# Altium footprint library PcbLib1.PcbLib: 6 footprints (part 2 of 3)
Each footprint in its own frame and in the unit in brackets; x right, y up, seen from the top. Pads: shape width x height; smd on the part's side, far side on the other; paste and mask are expansions set on the pad; w line width, h text height; cw(c..) or ccw(c..) is an arc to the next point about the centre after c.
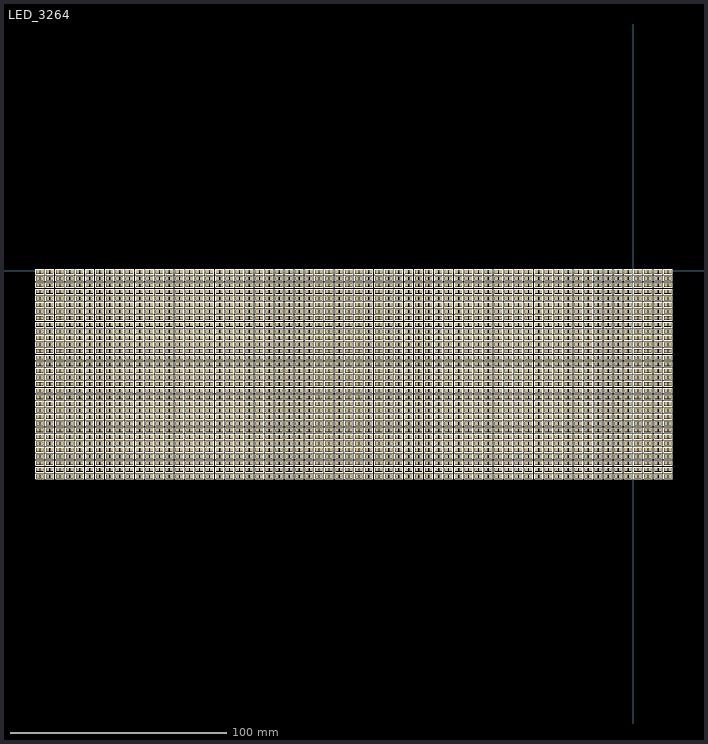
[diagram p1: the footprint, top view; thin cyan lines are the x and y axes]

## LED_3264 [mm]
pads (4096):
  rect 1.3x1.5 smd: 1(-275.082,-94.869) 1(-275.082,-91.821) 1(-275.082,-88.773) 1(-275.082,-85.725) 1(-275.082,-82.677) 1(-275.082,-79.629) 1(-275.082,-76.581) 1(-275.082,-73.533) 1(-275.082,-70.485) 1(-275.082,-67.437) 1(-275.082,-64.389) 1(-275.082,-61.341) 1(-275.082,-58.293) 1(-275.082,-55.245) 1(-275.082,-52.197) 1(-275.082,-49.149) 2(-270.51,-94.869) 2(-270.51,-91.821) 2(-270.51,-88.773) 2(-270.51,-85.725) 2(-270.51,-82.677) 2(-270.51,-79.629) 2(-270.51,-76.581) 2(-270.51,-73.533) 2(-270.51,-70.485) 2(-270.51,-67.437) 2(-270.51,-64.389) 2(-270.51,-61.341) 2(-270.51,-58.293) 2(-270.51,-55.245) 2(-270.51,-52.197) 2(-270.51,-49.149) 3(-265.811,-94.869) 3(-265.811,-91.821) 3(-265.811,-88.773) 3(-265.811,-85.725) 3(-265.811,-82.677) 3(-265.811,-79.629) 3(-265.811,-76.581) 3(-265.811,-73.533) 3(-265.811,-70.485) 3(-265.811,-67.437) 3(-265.811,-64.389) 3(-265.811,-61.341) 3(-265.811,-58.293) 3(-265.811,-55.245) 3(-265.811,-52.197) 3(-265.811,-49.149) 4(-261.239,-94.869) 4(-261.239,-91.821) 4(-261.239,-88.773) 4(-261.239,-85.725) 4(-261.239,-82.677) 4(-261.239,-79.629) 4(-261.239,-76.581) 4(-261.239,-73.533) 4(-261.239,-70.485) 4(-261.239,-67.437) 4(-261.239,-64.389) 4(-261.239,-61.341) 4(-261.239,-58.293) 4(-261.239,-55.245) 4(-261.239,-52.197) 4(-261.239,-49.149) 5(-256.667,-94.869) 5(-256.667,-91.821) 5(-256.667,-88.773) 5(-256.667,-85.725) 5(-256.667,-82.677) 5(-256.667,-79.629) 5(-256.667,-76.581) 5(-256.667,-73.533) 5(-256.667,-70.485) 5(-256.667,-67.437) 5(-256.667,-64.389) 5(-256.667,-61.341) 5(-256.667,-58.293) 5(-256.667,-55.245) 5(-256.667,-52.197) 5(-256.667,-49.149) 6(-252.095,-94.869) 6(-252.095,-91.821) 6(-252.095,-88.773) 6(-252.095,-85.725) 6(-252.095,-82.677) 6(-252.095,-79.629) 6(-252.095,-76.581) 6(-252.095,-73.533) 6(-252.095,-70.485) 6(-252.095,-67.437) 6(-252.095,-64.389) 6(-252.095,-61.341) 6(-252.095,-58.293) 6(-252.095,-55.245) 6(-252.095,-52.197) 6(-252.095,-49.149) 7(-247.396,-94.869) 7(-247.396,-91.821) 7(-247.396,-88.773) 7(-247.396,-85.725) 7(-247.396,-82.677) 7(-247.396,-79.629) 7(-247.396,-76.581) 7(-247.396,-73.533) 7(-247.396,-70.485) 7(-247.396,-67.437) 7(-247.396,-64.389) 7(-247.396,-61.341) 7(-247.396,-58.293) 7(-247.396,-55.245) 7(-247.396,-52.197) 7(-247.396,-49.149) 8(-242.824,-94.869) 8(-242.824,-91.821) 8(-242.824,-88.773) 8(-242.824,-85.725) 8(-242.824,-82.677) 8(-242.824,-79.629) 8(-242.824,-76.581) 8(-242.824,-73.533) 8(-242.824,-70.485) 8(-242.824,-67.437) 8(-242.824,-64.389) 8(-242.824,-61.341) 8(-242.824,-58.293) 8(-242.824,-55.245) 8(-242.824,-52.197) 8(-242.824,-49.149) 9(-238.252,-94.869) 9(-238.252,-91.821) 9(-238.252,-88.773) 9(-238.252,-85.725) 9(-238.252,-82.677) 9(-238.252,-79.629) 9(-238.252,-76.581) 9(-238.252,-73.533) 9(-238.252,-70.485) 9(-238.252,-67.437) 9(-238.252,-64.389) 9(-238.252,-61.341) 9(-238.252,-58.293) 9(-238.252,-55.245) 9(-238.252,-52.197) 9(-238.252,-49.149) 10(-233.68,-94.869) 10(-233.68,-91.821) 10(-233.68,-88.773) 10(-233.68,-85.725) 10(-233.68,-82.677) 10(-233.68,-79.629) 10(-233.68,-76.581) 10(-233.68,-73.533) 10(-233.68,-70.485) 10(-233.68,-67.437) 10(-233.68,-64.389) 10(-233.68,-61.341) 10(-233.68,-58.293) 10(-233.68,-55.245) 10(-233.68,-52.197) 10(-233.68,-49.149) 11(-228.981,-94.869) 11(-228.981,-91.821) 11(-228.981,-88.773) 11(-228.981,-85.725) 11(-228.981,-82.677) 11(-228.981,-79.629) 11(-228.981,-76.581) 11(-228.981,-73.533) 11(-228.981,-70.485) 11(-228.981,-67.437) 11(-228.981,-64.389) 11(-228.981,-61.341) 11(-228.981,-58.293) 11(-228.981,-55.245) 11(-228.981,-52.197) 11(-228.981,-49.149) 12(-224.409,-94.869) 12(-224.409,-91.821) 12(-224.409,-88.773) 12(-224.409,-85.725) 12(-224.409,-82.677) 12(-224.409,-79.629) 12(-224.409,-76.581) 12(-224.409,-73.533) 12(-224.409,-70.485) 12(-224.409,-67.437) 12(-224.409,-64.389) 12(-224.409,-61.341) 12(-224.409,-58.293) 12(-224.409,-55.245) 12(-224.409,-52.197) 12(-224.409,-49.149) 13(-219.837,-94.869) 13(-219.837,-91.821) 13(-219.837,-88.773) 13(-219.837,-85.725) 13(-219.837,-82.677) 13(-219.837,-79.629) 13(-219.837,-76.581) 13(-219.837,-73.533) 13(-219.837,-70.485) 13(-219.837,-67.437) 13(-219.837,-64.389) 13(-219.837,-61.341) 13(-219.837,-58.293) 13(-219.837,-55.245) 13(-219.837,-52.197) 13(-219.837,-49.149) 14(-215.265,-94.869) 14(-215.265,-91.821) 14(-215.265,-88.773) 14(-215.265,-85.725) 14(-215.265,-82.677) 14(-215.265,-79.629) 14(-215.265,-76.581) 14(-215.265,-73.533) 14(-215.265,-70.485) 14(-215.265,-67.437) 14(-215.265,-64.389) 14(-215.265,-61.341) 14(-215.265,-58.293) 14(-215.265,-55.245) 14(-215.265,-52.197) 14(-215.265,-49.149) 15(-210.566,-94.869) 15(-210.566,-91.821) 15(-210.566,-88.773) 15(-210.566,-85.725) 15(-210.566,-82.677) 15(-210.566,-79.629) 15(-210.566,-76.581) 15(-210.566,-73.533) 15(-210.566,-70.485) 15(-210.566,-67.437) 15(-210.566,-64.389) 15(-210.566,-61.341) 15(-210.566,-58.293) 15(-210.566,-55.245) 15(-210.566,-52.197) 15(-210.566,-49.149) 16(-205.994,-94.869) 16(-205.994,-91.821) 16(-205.994,-88.773) 16(-205.994,-85.725) 16(-205.994,-82.677) 16(-205.994,-79.629) 16(-205.994,-76.581) 16(-205.994,-73.533) 16(-205.994,-70.485) 16(-205.994,-67.437) 16(-205.994,-64.389) 16(-205.994,-61.341) 16(-205.994,-58.293) 16(-205.994,-55.245) 16(-205.994,-52.197) 16(-205.994,-49.149) 17(-201.295,-94.869) 17(-201.295,-91.821) 17(-201.295,-88.773) 17(-201.295,-85.725) 17(-201.295,-82.677) 17(-201.295,-79.629) 17(-201.295,-76.581) 17(-201.295,-73.533) 17(-201.295,-70.485) 17(-201.295,-67.437) 17(-201.295,-64.389) 17(-201.295,-61.341) 17(-201.295,-58.293) 17(-201.295,-55.245) 17(-201.295,-52.197) 17(-201.295,-49.149) 18(-196.723,-94.869) 18(-196.723,-91.821) 18(-196.723,-88.773) 18(-196.723,-85.725) 18(-196.723,-82.677) 18(-196.723,-79.629) 18(-196.723,-76.581) 18(-196.723,-73.533) 18(-196.723,-70.485) 18(-196.723,-67.437) 18(-196.723,-64.389) 18(-196.723,-61.341) 18(-196.723,-58.293) 18(-196.723,-55.245) 18(-196.723,-52.197) 18(-196.723,-49.149) 19(-192.024,-94.869) 19(-192.024,-91.821) 19(-192.024,-88.773) 19(-192.024,-85.725) 19(-192.024,-82.677) 19(-192.024,-79.629) 19(-192.024,-76.581) 19(-192.024,-73.533) 19(-192.024,-70.485) 19(-192.024,-67.437) 19(-192.024,-64.389) 19(-192.024,-61.341) 19(-192.024,-58.293) 19(-192.024,-55.245) 19(-192.024,-52.197) 19(-192.024,-49.149) 20(-187.452,-94.869) 20(-187.452,-91.821) 20(-187.452,-88.773) 20(-187.452,-85.725) 20(-187.452,-82.677) 20(-187.452,-79.629) 20(-187.452,-76.581) 20(-187.452,-73.533) 20(-187.452,-70.485) 20(-187.452,-67.437) 20(-187.452,-64.389) 20(-187.452,-61.341) 20(-187.452,-58.293) 20(-187.452,-55.245) 20(-187.452,-52.197) 20(-187.452,-49.149) 21(-182.88,-94.869) 21(-182.88,-91.821) 21(-182.88,-88.773) 21(-182.88,-85.725) 21(-182.88,-82.677) 21(-182.88,-79.629) 21(-182.88,-76.581) 21(-182.88,-73.533) 21(-182.88,-70.485) 21(-182.88,-67.437) 21(-182.88,-64.389) 21(-182.88,-61.341) 21(-182.88,-58.293) 21(-182.88,-55.245) 21(-182.88,-52.197) 21(-182.88,-49.149) 22(-178.308,-94.869) 22(-178.308,-91.821) 22(-178.308,-88.773) 22(-178.308,-85.725) 22(-178.308,-82.677) 22(-178.308,-79.629) 22(-178.308,-76.581) 22(-178.308,-73.533) 22(-178.308,-70.485) 22(-178.308,-67.437) 22(-178.308,-64.389) 22(-178.308,-61.341) 22(-178.308,-58.293) 22(-178.308,-55.245) 22(-178.308,-52.197) 22(-178.308,-49.149) 23(-173.609,-94.869) 23(-173.609,-91.821) 23(-173.609,-88.773) 23(-173.609,-85.725) 23(-173.609,-82.677) 23(-173.609,-79.629) 23(-173.609,-76.581) 23(-173.609,-73.533) 23(-173.609,-70.485) 23(-173.609,-67.437) 23(-173.609,-64.389) 23(-173.609,-61.341) 23(-173.609,-58.293) 23(-173.609,-55.245) 23(-173.609,-52.197) 23(-173.609,-49.149) 24(-169.037,-94.869) 24(-169.037,-91.821) 24(-169.037,-88.773) 24(-169.037,-85.725) 24(-169.037,-82.677) 24(-169.037,-79.629) 24(-169.037,-76.581) 24(-169.037,-73.533) 24(-169.037,-70.485) 24(-169.037,-67.437) 24(-169.037,-64.389) 24(-169.037,-61.341) 24(-169.037,-58.293) 24(-169.037,-55.245) 24(-169.037,-52.197) 24(-169.037,-49.149) 25(-164.465,-94.869) 25(-164.465,-91.821) 25(-164.465,-88.773) 25(-164.465,-85.725) 25(-164.465,-82.677) 25(-164.465,-79.629) 25(-164.465,-76.581) 25(-164.465,-73.533) 25(-164.465,-70.485) 25(-164.465,-67.437) 25(-164.465,-64.389) 25(-164.465,-61.341) 25(-164.465,-58.293) 25(-164.465,-55.245) 25(-164.465,-52.197) 25(-164.465,-49.149) 26(-159.893,-94.869) 26(-159.893,-91.821) 26(-159.893,-88.773) 26(-159.893,-85.725) 26(-159.893,-82.677) 26(-159.893,-79.629) 26(-159.893,-76.581) 26(-159.893,-73.533) 26(-159.893,-70.485) 26(-159.893,-67.437) 26(-159.893,-64.389) 26(-159.893,-61.341) 26(-159.893,-58.293) 26(-159.893,-55.245) 26(-159.893,-52.197) 26(-159.893,-49.149) 27(-155.194,-94.869) 27(-155.194,-91.821) 27(-155.194,-88.773) 27(-155.194,-85.725) 27(-155.194,-82.677) 27(-155.194,-79.629) 27(-155.194,-76.581) 27(-155.194,-73.533) 27(-155.194,-70.485) 27(-155.194,-67.437) 27(-155.194,-64.389) 27(-155.194,-61.341) 27(-155.194,-58.293) 27(-155.194,-55.245) 27(-155.194,-52.197) 27(-155.194,-49.149) 28(-150.622,-94.869) 28(-150.622,-91.821) 28(-150.622,-88.773) 28(-150.622,-85.725) 28(-150.622,-82.677) 28(-150.622,-79.629) 28(-150.622,-76.581) 28(-150.622,-73.533) 28(-150.622,-70.485) 28(-150.622,-67.437) 28(-150.622,-64.389) 28(-150.622,-61.341) 28(-150.622,-58.293) 28(-150.622,-55.245) 28(-150.622,-52.197) 28(-150.622,-49.149) 29(-146.05,-94.869) 29(-146.05,-91.821) 29(-146.05,-88.773) 29(-146.05,-85.725) 29(-146.05,-82.677) 29(-146.05,-79.629) 29(-146.05,-76.581) 29(-146.05,-73.533) 29(-146.05,-70.485) 29(-146.05,-67.437) 29(-146.05,-64.389) 29(-146.05,-61.341) 29(-146.05,-58.293) 29(-146.05,-55.245) 29(-146.05,-52.197) 29(-146.05,-49.149) 30(-141.478,-94.869) 30(-141.478,-91.821) 30(-141.478,-88.773) 30(-141.478,-85.725) 30(-141.478,-82.677) 30(-141.478,-79.629) 30(-141.478,-76.581) 30(-141.478,-73.533) 30(-141.478,-70.485) 30(-141.478,-67.437) 30(-141.478,-64.389) 30(-141.478,-61.341) 30(-141.478,-58.293) 30(-141.478,-55.245) 30(-141.478,-52.197) 30(-141.478,-49.149) 31(-136.779,-94.869) 31(-136.779,-91.821) 31(-136.779,-88.773) 31(-136.779,-85.725) 31(-136.779,-82.677) 31(-136.779,-79.629) 31(-136.779,-76.581) 31(-136.779,-73.533) 31(-136.779,-70.485) 31(-136.779,-67.437) 31(-136.779,-64.389) 31(-136.779,-61.341) 31(-136.779,-58.293) 31(-136.779,-55.245) 31(-136.779,-52.197) 31(-136.779,-49.149) 32(-132.207,-94.869) 32(-132.207,-91.821) 32(-132.207,-88.773) 32(-132.207,-85.725) 32(-132.207,-82.677) 32(-132.207,-79.629) 32(-132.207,-76.581) 32(-132.207,-73.533) 32(-132.207,-70.485) 32(-132.207,-67.437) 32(-132.207,-64.389) 32(-132.207,-61.341) 32(-132.207,-58.293) 32(-132.207,-55.245) 32(-132.207,-52.197) 32(-132.207,-49.149) 33(-127.635,-94.869) 33(-127.635,-91.821) 33(-127.635,-88.773) 33(-127.635,-85.725) 33(-127.635,-82.677) 33(-127.635,-79.629) 33(-127.635,-76.581) 33(-127.635,-73.533) 33(-127.635,-70.485) 33(-127.635,-67.437) 33(-127.635,-64.389) 33(-127.635,-61.341) 33(-127.635,-58.293) 33(-127.635,-55.245) 33(-127.635,-52.197) 33(-127.635,-49.149) 34(-123.063,-94.869) 34(-123.063,-91.821) 34(-123.063,-88.773) 34(-123.063,-85.725) 34(-123.063,-82.677) 34(-123.063,-79.629) 34(-123.063,-76.581) 34(-123.063,-73.533) 34(-123.063,-70.485) 34(-123.063,-67.437) 34(-123.063,-64.389) 34(-123.063,-61.341) 34(-123.063,-58.293) 34(-123.063,-55.245) 34(-123.063,-52.197) 34(-123.063,-49.149) 35(-118.364,-94.869) 35(-118.364,-91.821) 35(-118.364,-88.773) 35(-118.364,-85.725) 35(-118.364,-82.677) 35(-118.364,-79.629) 35(-118.364,-76.581) 35(-118.364,-73.533) 35(-118.364,-70.485) 35(-118.364,-67.437) 35(-118.364,-64.389) 35(-118.364,-61.341) 35(-118.364,-58.293) 35(-118.364,-55.245) 35(-118.364,-52.197) 35(-118.364,-49.149) 36(-113.792,-94.869) 36(-113.792,-91.821) 36(-113.792,-88.773) 36(-113.792,-85.725) 36(-113.792,-82.677) 36(-113.792,-79.629) 36(-113.792,-76.581) 36(-113.792,-73.533) 36(-113.792,-70.485) 36(-113.792,-67.437) 36(-113.792,-64.389) 36(-113.792,-61.341) 36(-113.792,-58.293) 36(-113.792,-55.245) 36(-113.792,-52.197) 36(-113.792,-49.149) 37(-109.22,-94.869) 37(-109.22,-91.821) 37(-109.22,-88.773) 37(-109.22,-85.725) 37(-109.22,-82.677) 37(-109.22,-79.629) 37(-109.22,-76.581) 37(-109.22,-73.533) 37(-109.22,-70.485) 37(-109.22,-67.437) 37(-109.22,-64.389) 37(-109.22,-61.341) 37(-109.22,-58.293) 37(-109.22,-55.245) 37(-109.22,-52.197) 37(-109.22,-49.149) 38(-104.648,-94.869) 38(-104.648,-91.821) 38(-104.648,-88.773) 38(-104.648,-85.725) 38(-104.648,-82.677) 38(-104.648,-79.629) 38(-104.648,-76.581) 38(-104.648,-73.533) 38(-104.648,-70.485) 38(-104.648,-67.437) 38(-104.648,-64.389) 38(-104.648,-61.341) 38(-104.648,-58.293) 38(-104.648,-55.245) 38(-104.648,-52.197) 38(-104.648,-49.149) 39(-99.949,-94.869) 39(-99.949,-91.821) 39(-99.949,-88.773) 39(-99.949,-85.725) 39(-99.949,-82.677) 39(-99.949,-79.629) 39(-99.949,-76.581) 39(-99.949,-73.533) 39(-99.949,-70.485) 39(-99.949,-67.437) 39(-99.949,-64.389) 39(-99.949,-61.341) 39(-99.949,-58.293) 39(-99.949,-55.245) 39(-99.949,-52.197) 39(-99.949,-49.149) 40(-95.377,-94.869) 40(-95.377,-91.821) 40(-95.377,-88.773) 40(-95.377,-85.725) 40(-95.377,-82.677) 40(-95.377,-79.629) 40(-95.377,-76.581) 40(-95.377,-73.533) 40(-95.377,-70.485) 40(-95.377,-67.437) 40(-95.377,-64.389) 40(-95.377,-61.341) 40(-95.377,-58.293) 40(-95.377,-55.245) 40(-95.377,-52.197) 40(-95.377,-49.149) 41(-90.805,-94.869) 41(-90.805,-91.821) 41(-90.805,-88.773) 41(-90.805,-85.725) 41(-90.805,-82.677) 41(-90.805,-79.629) 41(-90.805,-76.581) 41(-90.805,-73.533) 41(-90.805,-70.485) 41(-90.805,-67.437) 41(-90.805,-64.389) 41(-90.805,-61.341) 41(-90.805,-58.293) 41(-90.805,-55.245) 41(-90.805,-52.197) 41(-90.805,-49.149) 42(-86.233,-94.869) 42(-86.233,-91.821) 42(-86.233,-88.773) 42(-86.233,-85.725) 42(-86.233,-82.677) 42(-86.233,-79.629) 42(-86.233,-76.581) 42(-86.233,-73.533) 42(-86.233,-70.485) 42(-86.233,-67.437) 42(-86.233,-64.389) 42(-86.233,-61.341) 42(-86.233,-58.293) 42(-86.233,-55.245) 42(-86.233,-52.197) 42(-86.233,-49.149) 43(-81.534,-94.869) 43(-81.534,-91.821) 43(-81.534,-88.773) 43(-81.534,-85.725) 43(-81.534,-82.677) 43(-81.534,-79.629) 43(-81.534,-76.581) 43(-81.534,-73.533) 43(-81.534,-70.485) 43(-81.534,-67.437) 43(-81.534,-64.389) 43(-81.534,-61.341) 43(-81.534,-58.293) 43(-81.534,-55.245) 43(-81.534,-52.197) 43(-81.534,-49.149) 44(-76.962,-94.869) 44(-76.962,-91.821) 44(-76.962,-88.773) 44(-76.962,-85.725) 44(-76.962,-82.677) 44(-76.962,-79.629) 44(-76.962,-76.581) 44(-76.962,-73.533) 44(-76.962,-70.485) 44(-76.962,-67.437) 44(-76.962,-64.389) 44(-76.962,-61.341) 44(-76.962,-58.293) 44(-76.962,-55.245) 44(-76.962,-52.197) 44(-76.962,-49.149) 45(-72.39,-94.869) 45(-72.39,-91.821) 45(-72.39,-88.773) 45(-72.39,-85.725) 45(-72.39,-82.677) 45(-72.39,-79.629) 45(-72.39,-76.581) 45(-72.39,-73.533) 45(-72.39,-70.485) 45(-72.39,-67.437) 45(-72.39,-64.389) 45(-72.39,-61.341) 45(-72.39,-58.293) 45(-72.39,-55.245) 45(-72.39,-52.197) 45(-72.39,-49.149) 46(-67.818,-94.869) 46(-67.818,-91.821) 46(-67.818,-88.773) 46(-67.818,-85.725) 46(-67.818,-82.677) 46(-67.818,-79.629) 46(-67.818,-76.581) 46(-67.818,-73.533) 46(-67.818,-70.485) 46(-67.818,-67.437) 46(-67.818,-64.389) 46(-67.818,-61.341) 46(-67.818,-58.293) 46(-67.818,-55.245) 46(-67.818,-52.197) 46(-67.818,-49.149) 47(-63.119,-94.869) 47(-63.119,-91.821) 47(-63.119,-88.773) 47(-63.119,-85.725) 47(-63.119,-82.677) 47(-63.119,-79.629) 47(-63.119,-76.581) 47(-63.119,-73.533) 47(-63.119,-70.485) 47(-63.119,-67.437) 47(-63.119,-64.389) 47(-63.119,-61.341) 47(-63.119,-58.293) 47(-63.119,-55.245) 47(-63.119,-52.197) 47(-63.119,-49.149) 48(-58.547,-94.869) 48(-58.547,-91.821) 48(-58.547,-88.773) 48(-58.547,-85.725) 48(-58.547,-82.677) 48(-58.547,-79.629) 48(-58.547,-76.581) 48(-58.547,-73.533) 48(-58.547,-70.485) 48(-58.547,-67.437) 48(-58.547,-64.389) 48(-58.547,-61.341) 48(-58.547,-58.293) 48(-58.547,-55.245) 48(-58.547,-52.197) 48(-58.547,-49.149) 49(-53.848,-94.869) 49(-53.848,-91.821) 49(-53.848,-88.773) 49(-53.848,-85.725) 49(-53.848,-82.677) 49(-53.848,-79.629) 49(-53.848,-76.581) 49(-53.848,-73.533) 49(-53.848,-70.485) 49(-53.848,-67.437) 49(-53.848,-64.389) 49(-53.848,-61.341) 49(-53.848,-58.293) 49(-53.848,-55.245) 49(-53.848,-52.197) 49(-53.848,-49.149) 50(-49.276,-94.869) 50(-49.276,-91.821) 50(-49.276,-88.773) 50(-49.276,-85.725) 50(-49.276,-82.677) 50(-49.276,-79.629) 50(-49.276,-76.581) 50(-49.276,-73.533) 50(-49.276,-70.485) 50(-49.276,-67.437) 50(-49.276,-64.389) 50(-49.276,-61.341) 50(-49.276,-58.293) 50(-49.276,-55.245) 50(-49.276,-52.197) 50(-49.276,-49.149) 51(-44.577,-94.869) 51(-44.577,-91.821) 51(-44.577,-88.773) 51(-44.577,-85.725) 51(-44.577,-82.677) 51(-44.577,-79.629) 51(-44.577,-76.581) 51(-44.577,-73.533) 51(-44.577,-70.485) 51(-44.577,-67.437) 51(-44.577,-64.389) 51(-44.577,-61.341) 51(-44.577,-58.293) 51(-44.577,-55.245) 51(-44.577,-52.197) 51(-44.577,-49.149) 52(-40.005,-94.869) 52(-40.005,-91.821) 52(-40.005,-88.773) 52(-40.005,-85.725) 52(-40.005,-82.677) 52(-40.005,-79.629) 52(-40.005,-76.581) 52(-40.005,-73.533) 52(-40.005,-70.485) 52(-40.005,-67.437) 52(-40.005,-64.389) 52(-40.005,-61.341) 52(-40.005,-58.293) 52(-40.005,-55.245) 52(-40.005,-52.197) 52(-40.005,-49.149) 53(-35.433,-94.869) 53(-35.433,-91.821) 53(-35.433,-88.773) 53(-35.433,-85.725) 53(-35.433,-82.677) 53(-35.433,-79.629) 53(-35.433,-76.581) 53(-35.433,-73.533) 53(-35.433,-70.485) 53(-35.433,-67.437) 53(-35.433,-64.389) 53(-35.433,-61.341) 53(-35.433,-58.293) 53(-35.433,-55.245) 53(-35.433,-52.197) 53(-35.433,-49.149) 54(-30.861,-94.869) 54(-30.861,-91.821) 54(-30.861,-88.773) 54(-30.861,-85.725) 54(-30.861,-82.677) 54(-30.861,-79.629) 54(-30.861,-76.581) 54(-30.861,-73.533) 54(-30.861,-70.485) 54(-30.861,-67.437) 54(-30.861,-64.389) 54(-30.861,-61.341) 54(-30.861,-58.293) 54(-30.861,-55.245) 54(-30.861,-52.197) 54(-30.861,-49.149) 55(-26.162,-94.869) 55(-26.162,-91.821) 55(-26.162,-88.773) 55(-26.162,-85.725) 55(-26.162,-82.677) 55(-26.162,-79.629) 55(-26.162,-76.581) 55(-26.162,-73.533) 55(-26.162,-70.485) 55(-26.162,-67.437) 55(-26.162,-64.389) 55(-26.162,-61.341) 55(-26.162,-58.293) 55(-26.162,-55.245) 55(-26.162,-52.197) 55(-26.162,-49.149) 56(-21.59,-94.869) 56(-21.59,-91.821) 56(-21.59,-88.773) 56(-21.59,-85.725) 56(-21.59,-82.677) 56(-21.59,-79.629) 56(-21.59,-76.581) 56(-21.59,-73.533) 56(-21.59,-70.485) 56(-21.59,-67.437) 56(-21.59,-64.389) 56(-21.59,-61.341) 56(-21.59,-58.293) 56(-21.59,-55.245) 56(-21.59,-52.197) 56(-21.59,-49.149) 57(-17.018,-94.869) 57(-17.018,-91.821) 57(-17.018,-88.773) 57(-17.018,-85.725) 57(-17.018,-82.677) 57(-17.018,-79.629) 57(-17.018,-76.581) 57(-17.018,-73.533) 57(-17.018,-70.485) 57(-17.018,-67.437) 57(-17.018,-64.389) 57(-17.018,-61.341) 57(-17.018,-58.293) 57(-17.018,-55.245) 57(-17.018,-52.197) 57(-17.018,-49.149) 58(-12.446,-94.869) 58(-12.446,-91.821) 58(-12.446,-88.773) 58(-12.446,-85.725) 58(-12.446,-82.677) 58(-12.446,-79.629) 58(-12.446,-76.581) 58(-12.446,-73.533) 58(-12.446,-70.485) 58(-12.446,-67.437) 58(-12.446,-64.389) 58(-12.446,-61.341) 58(-12.446,-58.293) 58(-12.446,-55.245) 58(-12.446,-52.197) 58(-12.446,-49.149) 59(-7.747,-94.869) 59(-7.747,-91.821) 59(-7.747,-88.773) 59(-7.747,-85.725) 59(-7.747,-82.677) 59(-7.747,-79.629) 59(-7.747,-76.581) 59(-7.747,-73.533) 59(-7.747,-70.485) 59(-7.747,-67.437) 59(-7.747,-64.389) 59(-7.747,-61.341) 59(-7.747,-58.293) 59(-7.747,-55.245) 59(-7.747,-52.197) 59(-7.747,-49.149) 60(-3.175,-94.869) 60(-3.175,-91.821) 60(-3.175,-88.773) 60(-3.175,-85.725) 60(-3.175,-82.677) 60(-3.175,-79.629) 60(-3.175,-76.581) 60(-3.175,-73.533) 60(-3.175,-70.485) 60(-3.175,-67.437) 60(-3.175,-64.389) 60(-3.175,-61.341) 60(-3.175,-58.293) 60(-3.175,-55.245) 60(-3.175,-52.197) 60(-3.175,-49.149) 61(1.397,-94.869) 61(1.397,-91.821) 61(1.397,-88.773) 61(1.397,-85.725) 61(1.397,-82.677) 61(1.397,-79.629) 61(1.397,-76.581) 61(1.397,-73.533) 61(1.397,-70.485) 61(1.397,-67.437) 61(1.397,-64.389) 61(1.397,-61.341) 61(1.397,-58.293) 61(1.397,-55.245) 61(1.397,-52.197) 61(1.397,-49.149) 62(5.969,-94.869) 62(5.969,-91.821) 62(5.969,-88.773) 62(5.969,-85.725) 62(5.969,-82.677) 62(5.969,-79.629) 62(5.969,-76.581) 62(5.969,-73.533) 62(5.969,-70.485) 62(5.969,-67.437) 62(5.969,-64.389) 62(5.969,-61.341) 62(5.969,-58.293) 62(5.969,-55.245) 62(5.969,-52.197) 62(5.969,-49.149) 63(10.668,-94.869) 63(10.668,-91.821) 63(10.668,-88.773) 63(10.668,-85.725) 63(10.668,-82.677) 63(10.668,-79.629) 63(10.668,-76.581) 63(10.668,-73.533) 63(10.668,-70.485) 63(10.668,-67.437) 63(10.668,-64.389) 63(10.668,-61.341) 63(10.668,-58.293) 63(10.668,-55.245) 63(10.668,-52.197) 63(10.668,-49.149) 64(15.24,-94.869) 64(15.24,-91.821) 64(15.24,-88.773) 64(15.24,-85.725) 64(15.24,-82.677) 64(15.24,-79.629) 64(15.24,-76.581) 64(15.24,-73.533) 64(15.24,-70.485) 64(15.24,-67.437) 64(15.24,-64.389) 64(15.24,-61.341) 64(15.24,-58.293) 64(15.24,-55.245) 64(15.24,-52.197) 64(15.24,-49.149) 65(-273.182,-94.869) 65(-273.182,-46.101) 65(-268.61,-94.869) 65(-268.61,-46.101) 65(-263.911,-94.869) 65(-263.911,-46.101) 65(-259.339,-94.869) 65(-259.339,-46.101) 65(-254.767,-94.869) 65(-254.767,-46.101) 65(-250.195,-94.869) 65(-250.195,-46.101) 65(-245.496,-94.869) 65(-245.496,-46.101) 65(-240.924,-94.869) 65(-240.924,-46.101) 65(-236.352,-94.869) 65(-236.352,-46.101) 65(-231.78,-94.869) 65(-231.78,-46.101) 65(-227.081,-94.869) 65(-227.081,-46.101) 65(-222.509,-94.869) 65(-222.509,-46.101) 65(-217.937,-94.869) 65(-217.937,-46.101) 65(-213.365,-94.869) 65(-213.365,-46.101) 65(-208.666,-94.869) 65(-208.666,-46.101) 65(-204.094,-94.869) 65(-204.094,-46.101) 65(-199.395,-94.869) 65(-199.395,-46.101) 65(-194.823,-94.869) 65(-194.823,-46.101) 65(-190.124,-94.869) 65(-190.124,-46.101) 65(-185.552,-94.869) 65(-185.552,-46.101) 65(-180.98,-94.869) 65(-180.98,-46.101) 65(-176.408,-94.869) 65(-176.408,-46.101) 65(-171.709,-94.869) 65(-171.709,-46.101) 65(-167.137,-94.869) 65(-167.137,-46.101) 65(-162.565,-94.869) 65(-162.565,-46.101) 65(-157.993,-94.869) 65(-157.993,-46.101) 65(-153.294,-94.869) 65(-153.294,-46.101) 65(-148.722,-94.869) 65(-148.722,-46.101) 65(-144.15,-94.869) 65(-144.15,-46.101) 65(-139.578,-94.869) 65(-139.578,-46.101) 65(-134.879,-94.869) 65(-134.879,-46.101) 65(-130.307,-94.869) 65(-130.307,-46.101) 65(-125.735,-94.869) 65(-125.735,-46.101) 65(-121.163,-94.869) 65(-121.163,-46.101) 65(-116.464,-94.869) 65(-116.464,-46.101) 65(-111.892,-94.869) 65(-111.892,-46.101) 65(-107.32,-94.869) 65(-107.32,-46.101) 65(-102.748,-94.869) 65(-102.748,-46.101) 65(-98.049,-94.869) 65(-98.049,-46.101) 65(-93.477,-94.869) 65(-93.477,-46.101) 65(-88.905,-94.869) 65(-88.905,-46.101) 65(-84.333,-94.869) 65(-84.333,-46.101) 65(-79.634,-94.869) 65(-79.634,-46.101) 65(-75.062,-94.869) 65(-75.062,-46.101) 65(-70.49,-94.869) 65(-70.49,-46.101) 65(-65.918,-94.869) 65(-65.918,-46.101) 65(-61.219,-94.869) 65(-61.219,-46.101) 65(-56.647,-94.869) 65(-56.647,-46.101) 65(-51.948,-94.869) 65(-51.948,-46.101) 65(-47.376,-94.869) 65(-47.376,-46.101) 65(-42.677,-94.869) 65(-42.677,-46.101) 65(-38.105,-94.869) 65(-38.105,-46.101) 65(-33.533,-94.869) 65(-33.533,-46.101) 65(-28.961,-94.869) 65(-28.961,-46.101) 65(-24.262,-94.869) 65(-24.262,-46.101) 65(-19.69,-94.869) 65(-19.69,-46.101) 65(-15.118,-94.869) 65(-15.118,-46.101) 65(-10.546,-94.869) 65(-10.546,-46.101) 65(-5.847,-94.869) 65(-5.847,-46.101) 65(-1.275,-94.869) 65(-1.275,-46.101) 65(3.297,-94.869) 65(3.297,-46.101) 65(7.869,-94.869) 65(7.869,-46.101) 65(12.568,-94.869) 65(12.568,-46.101) 65(17.14,-94.869) 65(17.14,-46.101) 66(-273.182,-91.821) 66(-273.182,-43.053) 66(-268.61,-91.821) 66(-268.61,-43.053) 66(-263.911,-91.821) 66(-263.911,-43.053) 66(-259.339,-91.821) 66(-259.339,-43.053) 66(-254.767,-91.821) 66(-254.767,-43.053) 66(-250.195,-91.821) 66(-250.195,-43.053) 66(-245.496,-91.821) 66(-245.496,-43.053) 66(-240.924,-91.821) 66(-240.924,-43.053) 66(-236.352,-91.821) 66(-236.352,-43.053) 66(-231.78,-91.821) 66(-231.78,-43.053) 66(-227.081,-91.821) 66(-227.081,-43.053) 66(-222.509,-91.821) 66(-222.509,-43.053) 66(-217.937,-91.821) 66(-217.937,-43.053) 66(-213.365,-91.821) 66(-213.365,-43.053) 66(-208.666,-91.821) 66(-208.666,-43.053) 66(-204.094,-91.821) 66(-204.094,-43.053) 66(-199.395,-91.821) 66(-199.395,-43.053) 66(-194.823,-91.821) 66(-194.823,-43.053) 66(-190.124,-91.821) 66(-190.124,-43.053) 66(-185.552,-91.821) 66(-185.552,-43.053) 66(-180.98,-91.821) 66(-180.98,-43.053) 66(-176.408,-91.821) 66(-176.408,-43.053) 66(-171.709,-91.821) 66(-171.709,-43.053) 66(-167.137,-91.821) 66(-167.137,-43.053) 66(-162.565,-91.821) 66(-162.565,-43.053) 66(-157.993,-91.821) 66(-157.993,-43.053) 66(-153.294,-91.821) 66(-153.294,-43.053) 66(-148.722,-91.821) 66(-148.722,-43.053) 66(-144.15,-91.821) 66(-144.15,-43.053) 66(-139.578,-91.821) 66(-139.578,-43.053) 66(-134.879,-91.821) 66(-134.879,-43.053) 66(-130.307,-91.821) 66(-130.307,-43.053) 66(-125.735,-91.821) 66(-125.735,-43.053) 66(-121.163,-91.821) 66(-121.163,-43.053) 66(-116.464,-91.821) 66(-116.464,-43.053) 66(-111.892,-91.821) 66(-111.892,-43.053) 66(-107.32,-91.821) 66(-107.32,-43.053) 66(-102.748,-91.821) 66(-102.748,-43.053) 66(-98.049,-91.821) 66(-98.049,-43.053) 66(-93.477,-91.821) 66(-93.477,-43.053) 66(-88.905,-91.821) 66(-88.905,-43.053) 66(-84.333,-91.821) 66(-84.333,-43.053) 66(-79.634,-91.821) 66(-79.634,-43.053) 66(-75.062,-91.821) 66(-75.062,-43.053) 66(-70.49,-91.821) 66(-70.49,-43.053) 66(-65.918,-91.821) 66(-65.918,-43.053) 66(-61.219,-91.821) 66(-61.219,-43.053) 66(-56.647,-91.821) 66(-56.647,-43.053) 66(-51.948,-91.821) 66(-51.948,-43.053) 66(-47.376,-91.821) 66(-47.376,-43.053) 66(-42.677,-91.821) 66(-42.677,-43.053) 66(-38.105,-91.821) 66(-38.105,-43.053) 66(-33.533,-91.821) 66(-33.533,-43.053) 66(-28.961,-91.821) 66(-28.961,-43.053) 66(-24.262,-91.821) 66(-24.262,-43.053) 66(-19.69,-91.821) 66(-19.69,-43.053) 66(-15.118,-91.821) 66(-15.118,-43.053) 66(-10.546,-91.821) 66(-10.546,-43.053) 66(-5.847,-91.821) 66(-5.847,-43.053) 66(-1.275,-91.821) 66(-1.275,-43.053) 66(3.297,-91.821) 66(3.297,-43.053) 66(7.869,-91.821) 66(7.869,-43.053) 66(12.568,-91.821) 66(12.568,-43.053) 66(17.14,-91.821) 66(17.14,-43.053) 67(-273.182,-88.773) 67(-273.182,-40.005) 67(-268.61,-88.773) 67(-268.61,-40.005) 67(-263.911,-88.773) 67(-263.911,-40.005) 67(-259.339,-88.773) 67(-259.339,-40.005) 67(-254.767,-88.773) 67(-254.767,-40.005) 67(-250.195,-88.773) 67(-250.195,-40.005) 67(-245.496,-88.773) 67(-245.496,-40.005) 67(-240.924,-88.773) 67(-240.924,-40.005) 67(-236.352,-88.773) 67(-236.352,-40.005) 67(-231.78,-88.773) 67(-231.78,-40.005) 67(-227.081,-88.773) 67(-227.081,-40.005) 67(-222.509,-88.773) 67(-222.509,-40.005) 67(-217.937,-88.773) 67(-217.937,-40.005) 67(-213.365,-88.773) 67(-213.365,-40.005) 67(-208.666,-88.773) 67(-208.666,-40.005) 67(-204.094,-88.773) 67(-204.094,-40.005) 67(-199.395,-88.773) 67(-199.395,-40.005) 67(-194.823,-88.773) 67(-194.823,-40.005) 67(-190.124,-88.773) 67(-190.124,-40.005) 67(-185.552,-88.773) 67(-185.552,-40.005) 67(-180.98,-88.773) 67(-180.98,-40.005) 67(-176.408,-88.773) 67(-176.408,-40.005) 67(-171.709,-88.773) 67(-171.709,-40.005) 67(-167.137,-88.773) 67(-167.137,-40.005) 67(-162.565,-88.773) 67(-162.565,-40.005) 67(-157.993,-88.773) 67(-157.993,-40.005) 67(-153.294,-88.773) 67(-153.294,-40.005) 67(-148.722,-88.773) 67(-148.722,-40.005) 67(-144.15,-88.773) 67(-144.15,-40.005) 67(-139.578,-88.773) 67(-139.578,-40.005) 67(-134.879,-88.773) 67(-134.879,-40.005) 67(-130.307,-88.773) 67(-130.307,-40.005) 67(-125.735,-88.773) 67(-125.735,-40.005) 67(-121.163,-88.773) 67(-121.163,-40.005) 67(-116.464,-88.773) 67(-116.464,-40.005) 67(-111.892,-88.773) 67(-111.892,-40.005) 67(-107.32,-88.773) 67(-107.32,-40.005) 67(-102.748,-88.773) 67(-102.748,-40.005) 67(-98.049,-88.773) 67(-98.049,-40.005) 67(-93.477,-88.773) 67(-93.477,-40.005) 67(-88.905,-88.773) 67(-88.905,-40.005) 67(-84.333,-88.773) 67(-84.333,-40.005) 67(-79.634,-88.773) 67(-79.634,-40.005) 67(-75.062,-88.773) 67(-75.062,-40.005) 67(-70.49,-88.773) 67(-70.49,-40.005) 67(-65.918,-88.773) 67(-65.918,-40.005) 67(-61.219,-88.773) 67(-61.219,-40.005) 67(-56.647,-88.773) 67(-56.647,-40.005) 67(-51.948,-88.773) 67(-51.948,-40.005) 67(-47.376,-88.773) 67(-47.376,-40.005) 67(-42.677,-88.773) 67(-42.677,-40.005) 67(-38.105,-88.773) 67(-38.105,-40.005) 67(-33.533,-88.773) 67(-33.533,-40.005) 67(-28.961,-88.773) 67(-28.961,-40.005) 67(-24.262,-88.773) 67(-24.262,-40.005) 67(-19.69,-88.773) 67(-19.69,-40.005) 67(-15.118,-88.773) 67(-15.118,-40.005) 67(-10.546,-88.773) 67(-10.546,-40.005) 67(-5.847,-88.773) 67(-5.847,-40.005) 67(-1.275,-88.773) 67(-1.275,-40.005) 67(3.297,-88.773) 67(3.297,-40.005) 67(7.869,-88.773) 67(7.869,-40.005) 67(12.568,-88.773) 67(12.568,-40.005) 67(17.14,-88.773) 67(17.14,-40.005) 68(-273.182,-85.725) 68(-273.182,-36.957) 68(-268.61,-85.725) 68(-268.61,-36.957) 68(-263.911,-85.725) 68(-263.911,-36.957) 68(-259.339,-85.725) 68(-259.339,-36.957) 68(-254.767,-85.725) 68(-254.767,-36.957) 68(-250.195,-85.725) 68(-250.195,-36.957) 68(-245.496,-85.725) 68(-245.496,-36.957) 68(-240.924,-85.725) 68(-240.924,-36.957) 68(-236.352,-85.725) 68(-236.352,-36.957) 68(-231.78,-85.725) 68(-231.78,-36.957) 68(-227.081,-85.725) 68(-227.081,-36.957) 68(-222.509,-85.725) 68(-222.509,-36.957) 68(-217.937,-85.725) 68(-217.937,-36.957) 68(-213.365,-85.725) 68(-213.365,-36.957) 68(-208.666,-85.725) 68(-208.666,-36.957) 68(-204.094,-85.725) 68(-204.094,-36.957) 68(-199.395,-85.725) 68(-199.395,-36.957) 68(-194.823,-85.725) 68(-194.823,-36.957) 68(-190.124,-85.725) 68(-190.124,-36.957) 68(-185.552,-85.725) 68(-185.552,-36.957) 68(-180.98,-85.725) 68(-180.98,-36.957) 68(-176.408,-85.725) 68(-176.408,-36.957) 68(-171.709,-85.725) 68(-171.709,-36.957) 68(-167.137,-85.725) 68(-167.137,-36.957) 68(-162.565,-85.725) 68(-162.565,-36.957) 68(-157.993,-85.725) 68(-157.993,-36.957) 68(-153.294,-85.725) 68(-153.294,-36.957) 68(-148.722,-85.725) 68(-148.722,-36.957) 68(-144.15,-85.725) 68(-144.15,-36.957) 68(-139.578,-85.725) 68(-139.578,-36.957) 68(-134.879,-85.725) 68(-134.879,-36.957) 68(-130.307,-85.725) 68(-130.307,-36.957) 68(-125.735,-85.725) 68(-125.735,-36.957) 68(-121.163,-85.725) 68(-121.163,-36.957) 68(-116.464,-85.725) 68(-116.464,-36.957) 68(-111.892,-85.725) 68(-111.892,-36.957) 68(-107.32,-85.725) 68(-107.32,-36.957) 68(-102.748,-85.725) 68(-102.748,-36.957) 68(-98.049,-85.725) 68(-98.049,-36.957) 68(-93.477,-85.725) 68(-93.477,-36.957) 68(-88.905,-85.725) 68(-88.905,-36.957) 68(-84.333,-85.725) 68(-84.333,-36.957) 68(-79.634,-85.725) 68(-79.634,-36.957) 68(-75.062,-85.725) 68(-75.062,-36.957) 68(-70.49,-85.725) 68(-70.49,-36.957) 68(-65.918,-85.725) 68(-65.918,-36.957) 68(-61.219,-85.725) 68(-61.219,-36.957) 68(-56.647,-85.725) 68(-56.647,-36.957) 68(-51.948,-85.725) 68(-51.948,-36.957) 68(-47.376,-85.725) 68(-47.376,-36.957) 68(-42.677,-85.725) 68(-42.677,-36.957) 68(-38.105,-85.725) 68(-38.105,-36.957) 68(-33.533,-85.725) 68(-33.533,-36.957) 68(-28.961,-85.725) 68(-28.961,-36.957) 68(-24.262,-85.725) 68(-24.262,-36.957) 68(-19.69,-85.725) 68(-19.69,-36.957) 68(-15.118,-85.725) 68(-15.118,-36.957) 68(-10.546,-85.725) 68(-10.546,-36.957) 68(-5.847,-85.725) 68(-5.847,-36.957) 68(-1.275,-85.725) 68(-1.275,-36.957) 68(3.297,-85.725) 68(3.297,-36.957) 68(7.869,-85.725) 68(7.869,-36.957) 68(12.568,-85.725) 68(12.568,-36.957) 68(17.14,-85.725) 68(17.14,-36.957) 69(-273.182,-82.677) 69(-273.182,-33.909) 69(-268.61,-82.677) 69(-268.61,-33.909) 69(-263.911,-82.677) 69(-263.911,-33.909) 69(-259.339,-82.677) 69(-259.339,-33.909) 69(-254.767,-82.677) 69(-254.767,-33.909) 69(-250.195,-82.677) 69(-250.195,-33.909) 69(-245.496,-82.677) 69(-245.496,-33.909) 69(-240.924,-82.677) 69(-240.924,-33.909) 69(-236.352,-82.677) 69(-236.352,-33.909) 69(-231.78,-82.677) 69(-231.78,-33.909) 69(-227.081,-82.677) 69(-227.081,-33.909) 69(-222.509,-82.677) 69(-222.509,-33.909) 69(-217.937,-82.677) 69(-217.937,-33.909) 69(-213.365,-82.677) 69(-213.365,-33.909) 69(-208.666,-82.677) 69(-208.666,-33.909) 69(-204.094,-82.677) 69(-204.094,-33.909) 69(-199.395,-82.677) 69(-199.395,-33.909) 69(-194.823,-82.677) 69(-194.823,-33.909) 69(-190.124,-82.677) 69(-190.124,-33.909) 69(-185.552,-82.677) 69(-185.552,-33.909) 69(-180.98,-82.677) 69(-180.98,-33.909) 69(-176.408,-82.677) 69(-176.408,-33.909) 69(-171.709,-82.677) 69(-171.709,-33.909) 69(-167.137,-82.677) 69(-167.137,-33.909) 69(-162.565,-82.677) 69(-162.565,-33.909) 69(-157.993,-82.677) 69(-157.993,-33.909) 69(-153.294,-82.677) 69(-153.294,-33.909) 69(-148.722,-82.677) 69(-148.722,-33.909) 69(-144.15,-82.677) 69(-144.15,-33.909) 69(-139.578,-82.677) 69(-139.578,-33.909) 69(-134.879,-82.677) 69(-134.879,-33.909) 69(-130.307,-82.677) 69(-130.307,-33.909) 69(-125.735,-82.677) 69(-125.735,-33.909) 69(-121.163,-82.677) 69(-121.163,-33.909) 69(-116.464,-82.677) 69(-116.464,-33.909) 69(-111.892,-82.677) 69(-111.892,-33.909) 69(-107.32,-82.677) 69(-107.32,-33.909) 69(-102.748,-82.677) 69(-102.748,-33.909) 69(-98.049,-82.677) 69(-98.049,-33.909) 69(-93.477,-82.677) 69(-93.477,-33.909) 69(-88.905,-82.677) 69(-88.905,-33.909) 69(-84.333,-82.677) 69(-84.333,-33.909) 69(-79.634,-82.677) 69(-79.634,-33.909) 69(-75.062,-82.677) 69(-75.062,-33.909) 69(-70.49,-82.677) 69(-70.49,-33.909) 69(-65.918,-82.677) 69(-65.918,-33.909) 69(-61.219,-82.677) 69(-61.219,-33.909) 69(-56.647,-82.677) 69(-56.647,-33.909) 69(-51.948,-82.677) 69(-51.948,-33.909) 69(-47.376,-82.677) 69(-47.376,-33.909) 69(-42.677,-82.677) 69(-42.677,-33.909) 69(-38.105,-82.677) 69(-38.105,-33.909) 69(-33.533,-82.677) 69(-33.533,-33.909) 69(-28.961,-82.677) 69(-28.961,-33.909) 69(-24.262,-82.677) 69(-24.262,-33.909) 69(-19.69,-82.677) 69(-19.69,-33.909) 69(-15.118,-82.677) 69(-15.118,-33.909) 69(-10.546,-82.677) 69(-10.546,-33.909) 69(-5.847,-82.677) 69(-5.847,-33.909) 69(-1.275,-82.677) 69(-1.275,-33.909) 69(3.297,-82.677) 69(3.297,-33.909) 69(7.869,-82.677) 69(7.869,-33.909) 69(12.568,-82.677) 69(12.568,-33.909) 69(17.14,-82.677) 69(17.14,-33.909) 70(-273.182,-79.629) 70(-273.182,-30.861) 70(-268.61,-79.629) 70(-268.61,-30.861) 70(-263.911,-79.629) 70(-263.911,-30.861) 70(-259.339,-79.629) 70(-259.339,-30.861) 70(-254.767,-79.629) 70(-254.767,-30.861) 70(-250.195,-79.629) 70(-250.195,-30.861) 70(-245.496,-79.629) 70(-245.496,-30.861) 70(-240.924,-79.629) 70(-240.924,-30.861) 70(-236.352,-79.629) 70(-236.352,-30.861) 70(-231.78,-79.629) 70(-231.78,-30.861) 70(-227.081,-79.629) 70(-227.081,-30.861) 70(-222.509,-79.629) 70(-222.509,-30.861) 70(-217.937,-79.629) 70(-217.937,-30.861) 70(-213.365,-79.629) 70(-213.365,-30.861) 70(-208.666,-79.629) 70(-208.666,-30.861) 70(-204.094,-79.629) 70(-204.094,-30.861) 70(-199.395,-79.629) 70(-199.395,-30.861) 70(-194.823,-79.629) 70(-194.823,-30.861) 70(-190.124,-79.629) 70(-190.124,-30.861) 70(-185.552,-79.629) 70(-185.552,-30.861) 70(-180.98,-79.629) 70(-180.98,-30.861) 70(-176.408,-79.629) 70(-176.408,-30.861) 70(-171.709,-79.629) 70(-171.709,-30.861) 70(-167.137,-79.629) 70(-167.137,-30.861) 70(-162.565,-79.629) 70(-162.565,-30.861) 70(-157.993,-79.629) 70(-157.993,-30.861) 70(-153.294,-79.629) 70(-153.294,-30.861) 70(-148.722,-79.629) 70(-148.722,-30.861) 70(-144.15,-79.629) 70(-144.15,-30.861) 70(-139.578,-79.629) 70(-139.578,-30.861) 70(-134.879,-79.629) 70(-134.879,-30.861) 70(-130.307,-79.629) 70(-130.307,-30.861) 70(-125.735,-79.629) 70(-125.735,-30.861) 70(-121.163,-79.629) 70(-121.163,-30.861) 70(-116.464,-79.629) 70(-116.464,-30.861) 70(-111.892,-79.629) 70(-111.892,-30.861) 70(-107.32,-79.629) 70(-107.32,-30.861) 70(-102.748,-79.629) 70(-102.748,-30.861) 70(-98.049,-79.629) 70(-98.049,-30.861) 70(-93.477,-79.629) 70(-93.477,-30.861) 70(-88.905,-79.629) 70(-88.905,-30.861) 70(-84.333,-79.629) 70(-84.333,-30.861) 70(-79.634,-79.629) 70(-79.634,-30.861) 70(-75.062,-79.629) 70(-75.062,-30.861) 70(-70.49,-79.629) 70(-70.49,-30.861) 70(-65.918,-79.629) 70(-65.918,-30.861) 70(-61.219,-79.629) 70(-61.219,-30.861) 70(-56.647,-79.629) 70(-56.647,-30.861) 70(-51.948,-79.629) 70(-51.948,-30.861) 70(-47.376,-79.629) 70(-47.376,-30.861) 70(-42.677,-79.629) 70(-42.677,-30.861) 70(-38.105,-79.629) 70(-38.105,-30.861) 70(-33.533,-79.629) 70(-33.533,-30.861) 70(-28.961,-79.629) 70(-28.961,-30.861) 70(-24.262,-79.629) 70(-24.262,-30.861) 70(-19.69,-79.629) 70(-19.69,-30.861) 70(-15.118,-79.629) 70(-15.118,-30.861) 70(-10.546,-79.629) 70(-10.546,-30.861) 70(-5.847,-79.629) 70(-5.847,-30.861) 70(-1.275,-79.629) 70(-1.275,-30.861) 70(3.297,-79.629) 70(3.297,-30.861) 70(7.869,-79.629) 70(7.869,-30.861) 70(12.568,-79.629) 70(12.568,-30.861) 70(17.14,-79.629) 70(17.14,-30.861) 71(-273.182,-76.581) 71(-273.182,-27.813) 71(-268.61,-76.581) 71(-268.61,-27.813) 71(-263.911,-76.581) 71(-263.911,-27.813) 71(-259.339,-76.581) 71(-259.339,-27.813) 71(-254.767,-76.581) 71(-254.767,-27.813) 71(-250.195,-76.581) 71(-250.195,-27.813) 71(-245.496,-76.581) 71(-245.496,-27.813) 71(-240.924,-76.581) 71(-240.924,-27.813) 71(-236.352,-76.581) 71(-236.352,-27.813) 71(-231.78,-76.581) 71(-231.78,-27.813) 71(-227.081,-76.581) 71(-227.081,-27.813) 71(-222.509,-76.581) 71(-222.509,-27.813) 71(-217.937,-76.581) 71(-217.937,-27.813) 71(-213.365,-76.581) 71(-213.365,-27.813) 71(-208.666,-76.581) 71(-208.666,-27.813) 71(-204.094,-76.581) 71(-204.094,-27.813) 71(-199.395,-76.581) 71(-199.395,-27.813) 71(-194.823,-76.581) 71(-194.823,-27.813) 71(-190.124,-76.581) 71(-190.124,-27.813) 71(-185.552,-76.581) 71(-185.552,-27.813) 71(-180.98,-76.581) 71(-180.98,-27.813) 71(-176.408,-76.581) 71(-176.408,-27.813) 71(-171.709,-76.581) 71(-171.709,-27.813) 71(-167.137,-76.581) 71(-167.137,-27.813) 71(-162.565,-76.581) 71(-162.565,-27.813) 71(-157.993,-76.581) 71(-157.993,-27.813) 71(-153.294,-76.581) 71(-153.294,-27.813) 71(-148.722,-76.581) 71(-148.722,-27.813) 71(-144.15,-76.581) 71(-144.15,-27.813) 71(-139.578,-76.581) 71(-139.578,-27.813) 71(-134.879,-76.581) 71(-134.879,-27.813) 71(-130.307,-76.581) 71(-130.307,-27.813) 71(-125.735,-76.581) 71(-125.735,-27.813) 71(-121.163,-76.581) 71(-121.163,-27.813) 71(-116.464,-76.581) 71(-116.464,-27.813) 71(-111.892,-76.581) 71(-111.892,-27.813) 71(-107.32,-76.581) 71(-107.32,-27.813) 71(-102.748,-76.581) 71(-102.748,-27.813) 71(-98.049,-76.581) 71(-98.049,-27.813) 71(-93.477,-76.581) 71(-93.477,-27.813) 71(-88.905,-76.581) 71(-88.905,-27.813) 71(-84.333,-76.581) 71(-84.333,-27.813) 71(-79.634,-76.581) 71(-79.634,-27.813) 71(-75.062,-76.581) 71(-75.062,-27.813) 71(-70.49,-76.581) 71(-70.49,-27.813) 71(-65.918,-76.581) 71(-65.918,-27.813) 71(-61.219,-76.581) 71(-61.219,-27.813) 71(-56.647,-76.581) 71(-56.647,-27.813) 71(-51.948,-76.581) 71(-51.948,-27.813) 71(-47.376,-76.581) 71(-47.376,-27.813) 71(-42.677,-76.581) 71(-42.677,-27.813) 71(-38.105,-76.581) 71(-38.105,-27.813) 71(-33.533,-76.581) 71(-33.533,-27.813) 71(-28.961,-76.581) 71(-28.961,-27.813) 71(-24.262,-76.581) 71(-24.262,-27.813) 71(-19.69,-76.581) 71(-19.69,-27.813) 71(-15.118,-76.581) 71(-15.118,-27.813) 71(-10.546,-76.581) 71(-10.546,-27.813) 71(-5.847,-76.581) 71(-5.847,-27.813) 71(-1.275,-76.581) 71(-1.275,-27.813) 71(3.297,-76.581) 71(3.297,-27.813) 71(7.869,-76.581) 71(7.869,-27.813) 71(12.568,-76.581) 71(12.568,-27.813) 71(17.14,-76.581) 71(17.14,-27.813) 72(-273.182,-73.533) 72(-273.182,-24.765) 72(-268.61,-73.533) 72(-268.61,-24.765) 72(-263.911,-73.533) 72(-263.911,-24.765) 72(-259.339,-73.533) 72(-259.339,-24.765) 72(-254.767,-73.533) 72(-254.767,-24.765) 72(-250.195,-73.533) 72(-250.195,-24.765) 72(-245.496,-73.533) 72(-245.496,-24.765) 72(-240.924,-73.533) 72(-240.924,-24.765) 72(-236.352,-73.533) 72(-236.352,-24.765) 72(-231.78,-73.533) 72(-231.78,-24.765) 72(-227.081,-73.533) 72(-227.081,-24.765) 72(-222.509,-73.533) 72(-222.509,-24.765) 72(-217.937,-73.533) 72(-217.937,-24.765) 72(-213.365,-73.533) 72(-213.365,-24.765) 72(-208.666,-73.533) 72(-208.666,-24.765) 72(-204.094,-73.533) 72(-204.094,-24.765) 72(-199.395,-73.533) 72(-199.395,-24.765) 72(-194.823,-73.533) 72(-194.823,-24.765) 72(-190.124,-73.533) 72(-190.124,-24.765) 72(-185.552,-73.533) 72(-185.552,-24.765) 72(-180.98,-73.533) 72(-180.98,-24.765) 72(-176.408,-73.533) 72(-176.408,-24.765) 72(-171.709,-73.533) 72(-171.709,-24.765) 72(-167.137,-73.533) 72(-167.137,-24.765) 72(-162.565,-73.533) 72(-162.565,-24.765) 72(-157.993,-73.533) 72(-157.993,-24.765) 72(-153.294,-73.533) 72(-153.294,-24.765) 72(-148.722,-73.533) 72(-148.722,-24.765) 72(-144.15,-73.533) 72(-144.15,-24.765) 72(-139.578,-73.533) 72(-139.578,-24.765) 72(-134.879,-73.533) 72(-134.879,-24.765) 72(-130.307,-73.533) 72(-130.307,-24.765) 72(-125.735,-73.533) 72(-125.735,-24.765) 72(-121.163,-73.533) 72(-121.163,-24.765) 72(-116.464,-73.533) 72(-116.464,-24.765) 72(-111.892,-73.533) 72(-111.892,-24.765) 72(-107.32,-73.533) 72(-107.32,-24.765) 72(-102.748,-73.533) 72(-102.748,-24.765) 72(-98.049,-73.533) 72(-98.049,-24.765) 72(-93.477,-73.533) 72(-93.477,-24.765) 72(-88.905,-73.533) 72(-88.905,-24.765) 72(-84.333,-73.533) 72(-84.333,-24.765) 72(-79.634,-73.533) 72(-79.634,-24.765) 72(-75.062,-73.533) 72(-75.062,-24.765) 72(-70.49,-73.533) 72(-70.49,-24.765) 72(-65.918,-73.533) 72(-65.918,-24.765) 72(-61.219,-73.533) 72(-61.219,-24.765) 72(-56.647,-73.533) 72(-56.647,-24.765) 72(-51.948,-73.533) 72(-51.948,-24.765) 72(-47.376,-73.533) 72(-47.376,-24.765) 72(-42.677,-73.533) 72(-42.677,-24.765) 72(-38.105,-73.533) 72(-38.105,-24.765) 72(-33.533,-73.533) 72(-33.533,-24.765) 72(-28.961,-73.533) 72(-28.961,-24.765) 72(-24.262,-73.533) 72(-24.262,-24.765) 72(-19.69,-73.533) 72(-19.69,-24.765) 72(-15.118,-73.533) 72(-15.118,-24.765) 72(-10.546,-73.533) 72(-10.546,-24.765) 72(-5.847,-73.533) 72(-5.847,-24.765) 72(-1.275,-73.533) 72(-1.275,-24.765) 72(3.297,-73.533) 72(3.297,-24.765) 72(7.869,-73.533) 72(7.869,-24.765) 72(12.568,-73.533) 72(12.568,-24.765) 72(17.14,-73.533) 72(17.14,-24.765) 73(-273.182,-70.485) 73(-273.182,-21.717) 73(-268.61,-70.485) 73(-268.61,-21.717) 73(-263.911,-70.485) 73(-263.911,-21.717) 73(-259.339,-70.485) 73(-259.339,-21.717) 73(-254.767,-70.485) 73(-254.767,-21.717) 73(-250.195,-70.485) 73(-250.195,-21.717) 73(-245.496,-70.485) 73(-245.496,-21.717) 73(-240.924,-70.485) 73(-240.924,-21.717) 73(-236.352,-70.485) 73(-236.352,-21.717) 73(-231.78,-70.485) 73(-231.78,-21.717) 73(-227.081,-70.485) 73(-227.081,-21.717) 73(-222.509,-70.485) 73(-222.509,-21.717) 73(-217.937,-70.485) 73(-217.937,-21.717) 73(-213.365,-70.485) 73(-213.365,-21.717) 73(-208.666,-70.485) 73(-208.666,-21.717) 73(-204.094,-70.485) 73(-204.094,-21.717) 73(-199.395,-70.485) 73(-199.395,-21.717) 73(-194.823,-70.485) 73(-194.823,-21.717) 73(-190.124,-70.485) 73(-190.124,-21.717) 73(-185.552,-70.485) 73(-185.552,-21.717) 73(-180.98,-70.485) 73(-180.98,-21.717) 73(-176.408,-70.485) 73(-176.408,-21.717) 73(-171.709,-70.485) 73(-171.709,-21.717) 73(-167.137,-70.485) 73(-167.137,-21.717) 73(-162.565,-70.485) 73(-162.565,-21.717) 73(-157.993,-70.485) 73(-157.993,-21.717) 73(-153.294,-70.485) 73(-153.294,-21.717) 73(-148.722,-70.485) 73(-148.722,-21.717) 73(-144.15,-70.485) 73(-144.15,-21.717) 73(-139.578,-70.485) 73(-139.578,-21.717) 73(-134.879,-70.485) 73(-134.879,-21.717) 73(-130.307,-70.485) 73(-130.307,-21.717) 73(-125.735,-70.485) 73(-125.735,-21.717) 73(-121.163,-70.485) 73(-121.163,-21.717) 73(-116.464,-70.485) 73(-116.464,-21.717) 73(-111.892,-70.485) 73(-111.892,-21.717) 73(-107.32,-70.485) 73(-107.32,-21.717) 73(-102.748,-70.485) 73(-102.748,-21.717) 73(-98.049,-70.485) 73(-98.049,-21.717) 73(-93.477,-70.485) 73(-93.477,-21.717) 73(-88.905,-70.485) 73(-88.905,-21.717) 73(-84.333,-70.485) 73(-84.333,-21.717) 73(-79.634,-70.485) 73(-79.634,-21.717) 73(-75.062,-70.485) 73(-75.062,-21.717) 73(-70.49,-70.485) 73(-70.49,-21.717) 73(-65.918,-70.485) 73(-65.918,-21.717) 73(-61.219,-70.485) 73(-61.219,-21.717) 73(-56.647,-70.485) 73(-56.647,-21.717) 73(-51.948,-70.485) 73(-51.948,-21.717) 73(-47.376,-70.485) 73(-47.376,-21.717) 73(-42.677,-70.485) 73(-42.677,-21.717) 73(-38.105,-70.485) 73(-38.105,-21.717) 73(-33.533,-70.485) 73(-33.533,-21.717) 73(-28.961,-70.485) 73(-28.961,-21.717) 73(-24.262,-70.485) 73(-24.262,-21.717) 73(-19.69,-70.485) 73(-19.69,-21.717) 73(-15.118,-70.485) 73(-15.118,-21.717) 73(-10.546,-70.485) 73(-10.546,-21.717) 73(-5.847,-70.485) 73(-5.847,-21.717) 73(-1.275,-70.485) 73(-1.275,-21.717) 73(3.297,-70.485) 73(3.297,-21.717) 73(7.869,-70.485) 73(7.869,-21.717) 73(12.568,-70.485) 73(12.568,-21.717) 73(17.14,-70.485) 73(17.14,-21.717) 74(-273.182,-67.437) 74(-273.182,-18.669) 74(-268.61,-67.437) 74(-268.61,-18.669) 74(-263.911,-67.437) 74(-263.911,-18.669) 74(-259.339,-67.437) 74(-259.339,-18.669) 74(-254.767,-67.437) 74(-254.767,-18.669) 74(-250.195,-67.437) 74(-250.195,-18.669) 74(-245.496,-67.437) 74(-245.496,-18.669) 74(-240.924,-67.437) 74(-240.924,-18.669) 74(-236.352,-67.437) 74(-236.352,-18.669) 74(-231.78,-67.437) 74(-231.78,-18.669) 74(-227.081,-67.437) 74(-227.081,-18.669) 74(-222.509,-67.437) 74(-222.509,-18.669) 74(-217.937,-67.437) 74(-217.937,-18.669) 74(-213.365,-67.437) 74(-213.365,-18.669) 74(-208.666,-67.437) 74(-208.666,-18.669) 74(-204.094,-67.437) 74(-204.094,-18.669) 74(-199.395,-67.437) 74(-199.395,-18.669) 74(-194.823,-67.437) 74(-194.823,-18.669) 74(-190.124,-67.437) 74(-190.124,-18.669) 74(-185.552,-67.437) 74(-185.552,-18.669) 74(-180.98,-67.437) 74(-180.98,-18.669) 74(-176.408,-67.437) 74(-176.408,-18.669) 74(-171.709,-67.437) 74(-171.709,-18.669) 74(-167.137,-67.437) 74(-167.137,-18.669) 74(-162.565,-67.437) 74(-162.565,-18.669) 74(-157.993,-67.437) 74(-157.993,-18.669) 74(-153.294,-67.437) 74(-153.294,-18.669) 74(-148.722,-67.437) 74(-148.722,-18.669) 74(-144.15,-67.437) 74(-144.15,-18.669) 74(-139.578,-67.437) 74(-139.578,-18.669) 74(-134.879,-67.437) 74(-134.879,-18.669) 74(-130.307,-67.437) 74(-130.307,-18.669) 74(-125.735,-67.437) 74(-125.735,-18.669) 74(-121.163,-67.437) 74(-121.163,-18.669) 74(-116.464,-67.437) 74(-116.464,-18.669) 74(-111.892,-67.437) 74(-111.892,-18.669) 74(-107.32,-67.437) 74(-107.32,-18.669) 74(-102.748,-67.437) 74(-102.748,-18.669) 74(-98.049,-67.437) 74(-98.049,-18.669) 74(-93.477,-67.437) 74(-93.477,-18.669) 74(-88.905,-67.437) 74(-88.905,-18.669) 74(-84.333,-67.437) 74(-84.333,-18.669) 74(-79.634,-67.437) 74(-79.634,-18.669) 74(-75.062,-67.437) 74(-75.062,-18.669) 74(-70.49,-67.437) 74(-70.49,-18.669) 74(-65.918,-67.437) 74(-65.918,-18.669) 74(-61.219,-67.437) 74(-61.219,-18.669) 74(-56.647,-67.437) 74(-56.647,-18.669) 74(-51.948,-67.437) 74(-51.948,-18.669) 74(-47.376,-67.437) 74(-47.376,-18.669) 74(-42.677,-67.437) 74(-42.677,-18.669) 74(-38.105,-67.437) 74(-38.105,-18.669) 74(-33.533,-67.437) 74(-33.533,-18.669) 74(-28.961,-67.437) 74(-28.961,-18.669) 74(-24.262,-67.437) 74(-24.262,-18.669) 74(-19.69,-67.437) 74(-19.69,-18.669) 74(-15.118,-67.437) 74(-15.118,-18.669) 74(-10.546,-67.437) 74(-10.546,-18.669) 74(-5.847,-67.437) 74(-5.847,-18.669) 74(-1.275,-67.437) 74(-1.275,-18.669) 74(3.297,-67.437) 74(3.297,-18.669) 74(7.869,-67.437) 74(7.869,-18.669) 74(12.568,-67.437) 74(12.568,-18.669) 74(17.14,-67.437) 74(17.14,-18.669) 75(-273.182,-64.389) 75(-273.182,-15.621) 75(-268.61,-64.389) 75(-268.61,-15.621) 75(-263.911,-64.389) 75(-263.911,-15.621) 75(-259.339,-64.389) 75(-259.339,-15.621) 75(-254.767,-64.389) 75(-254.767,-15.621) 75(-250.195,-64.389) 75(-250.195,-15.621) 75(-245.496,-64.389) 75(-245.496,-15.621) 75(-240.924,-64.389) 75(-240.924,-15.621) 75(-236.352,-64.389) 75(-236.352,-15.621) 75(-231.78,-64.389) 75(-231.78,-15.621) 75(-227.081,-64.389) 75(-227.081,-15.621) 75(-222.509,-64.389) 75(-222.509,-15.621) 75(-217.937,-64.389) 75(-217.937,-15.621) 75(-213.365,-64.389) 75(-213.365,-15.621) 75(-208.666,-64.389) 75(-208.666,-15.621) 75(-204.094,-64.389) 75(-204.094,-15.621) 75(-199.395,-64.389) 75(-199.395,-15.621) 75(-194.823,-64.389) 75(-194.823,-15.621) 75(-190.124,-64.389) 75(-190.124,-15.621) 75(-185.552,-64.389) 75(-185.552,-15.621) 75(-180.98,-64.389) 75(-180.98,-15.621) 75(-176.408,-64.389) 75(-176.408,-15.621) 75(-171.709,-64.389) 75(-171.709,-15.621) 75(-167.137,-64.389) 75(-167.137,-15.621) 75(-162.565,-64.389) 75(-162.565,-15.621) 75(-157.993,-64.389) 75(-157.993,-15.621) 75(-153.294,-64.389) 75(-153.294,-15.621) 75(-148.722,-64.389) 75(-148.722,-15.621) 75(-144.15,-64.389) 75(-144.15,-15.621) 75(-139.578,-64.389) 75(-139.578,-15.621) 75(-134.879,-64.389) 75(-134.879,-15.621) 75(-130.307,-64.389) 75(-130.307,-15.621) 75(-125.735,-64.389) 75(-125.735,-15.621) 75(-121.163,-64.389) 75(-121.163,-15.621) 75(-116.464,-64.389) 75(-116.464,-15.621) 75(-111.892,-64.389) 75(-111.892,-15.621) 75(-107.32,-64.389) 75(-107.32,-15.621) 75(-102.748,-64.389) 75(-102.748,-15.621) 75(-98.049,-64.389) 75(-98.049,-15.621) 75(-93.477,-64.389) 75(-93.477,-15.621) 75(-88.905,-64.389) 75(-88.905,-15.621) 75(-84.333,-64.389) 75(-84.333,-15.621) 75(-79.634,-64.389) 75(-79.634,-15.621) 75(-75.062,-64.389) 75(-75.062,-15.621) 75(-70.49,-64.389) 75(-70.49,-15.621) 75(-65.918,-64.389) 75(-65.918,-15.621) 75(-61.219,-64.389) 75(-61.219,-15.621) 75(-56.647,-64.389) 75(-56.647,-15.621) 75(-51.948,-64.389) 75(-51.948,-15.621) 75(-47.376,-64.389) 75(-47.376,-15.621) 75(-42.677,-64.389) 75(-42.677,-15.621) 75(-38.105,-64.389) 75(-38.105,-15.621) 75(-33.533,-64.389) 75(-33.533,-15.621) 75(-28.961,-64.389) 75(-28.961,-15.621) 75(-24.262,-64.389) 75(-24.262,-15.621) 75(-19.69,-64.389) 75(-19.69,-15.621) 75(-15.118,-64.389) 75(-15.118,-15.621) 75(-10.546,-64.389) 75(-10.546,-15.621) 75(-5.847,-64.389) 75(-5.847,-15.621) 75(-1.275,-64.389) 75(-1.275,-15.621) 75(3.297,-64.389) 75(3.297,-15.621) 75(7.869,-64.389) 75(7.869,-15.621) 75(12.568,-64.389) 75(12.568,-15.621) 75(17.14,-64.389) 75(17.14,-15.621) 76(-273.182,-61.341) 76(-273.182,-12.573) 76(-268.61,-61.341) 76(-268.61,-12.573) 76(-263.911,-61.341) 76(-263.911,-12.573) 76(-259.339,-61.341) 76(-259.339,-12.573) 76(-254.767,-61.341) 76(-254.767,-12.573) 76(-250.195,-61.341) 76(-250.195,-12.573) 76(-245.496,-61.341) 76(-245.496,-12.573) 76(-240.924,-61.341) 76(-240.924,-12.573) 76(-236.352,-61.341) 76(-236.352,-12.573) 76(-231.78,-61.341) 76(-231.78,-12.573) 76(-227.081,-61.341) 76(-227.081,-12.573) 76(-222.509,-61.341) 76(-222.509,-12.573) 76(-217.937,-61.341) 76(-217.937,-12.573) 76(-213.365,-61.341) 76(-213.365,-12.573) 76(-208.666,-61.341) 76(-208.666,-12.573) 76(-204.094,-61.341) 76(-204.094,-12.573) 76(-199.395,-61.341) 76(-199.395,-12.573) 76(-194.823,-61.341) 76(-194.823,-12.573) 76(-190.124,-61.341) 76(-190.124,-12.573) 76(-185.552,-61.341) 76(-185.552,-12.573) 76(-180.98,-61.341) 76(-180.98,-12.573) 76(-176.408,-61.341) 76(-176.408,-12.573) 76(-171.709,-61.341) 76(-171.709,-12.573) 76(-167.137,-61.341) 76(-167.137,-12.573) 76(-162.565,-61.341) 76(-162.565,-12.573) 76(-157.993,-61.341) 76(-157.993,-12.573) 76(-153.294,-61.341) 76(-153.294,-12.573) 76(-148.722,-61.341) 76(-148.722,-12.573) 76(-144.15,-61.341) 76(-144.15,-12.573) 76(-139.578,-61.341) 76(-139.578,-12.573) 76(-134.879,-61.341) 76(-134.879,-12.573) 76(-130.307,-61.341) 76(-130.307,-12.573) 76(-125.735,-61.341) 76(-125.735,-12.573) 76(-121.163,-61.341) 76(-121.163,-12.573) 76(-116.464,-61.341) 76(-116.464,-12.573) 76(-111.892,-61.341) 76(-111.892,-12.573) 76(-107.32,-61.341) 76(-107.32,-12.573) 76(-102.748,-61.341) 76(-102.748,-12.573) 76(-98.049,-61.341) 76(-98.049,-12.573) 76(-93.477,-61.341) 76(-93.477,-12.573) 76(-88.905,-61.341) 76(-88.905,-12.573) 76(-84.333,-61.341) 76(-84.333,-12.573) 76(-79.634,-61.341) 76(-79.634,-12.573) 76(-75.062,-61.341) 76(-75.062,-12.573) 76(-70.49,-61.341) 76(-70.49,-12.573) 76(-65.918,-61.341) 76(-65.918,-12.573) 76(-61.219,-61.341) 76(-61.219,-12.573) 76(-56.647,-61.341) 76(-56.647,-12.573) 76(-51.948,-61.341) 76(-51.948,-12.573) 76(-47.376,-61.341) 76(-47.376,-12.573) 76(-42.677,-61.341) 76(-42.677,-12.573) 76(-38.105,-61.341) 76(-38.105,-12.573) 76(-33.533,-61.341) 76(-33.533,-12.573) 76(-28.961,-61.341) 76(-28.961,-12.573) 76(-24.262,-61.341) 76(-24.262,-12.573) 76(-19.69,-61.341) 76(-19.69,-12.573) 76(-15.118,-61.341) 76(-15.118,-12.573) 76(-10.546,-61.341) 76(-10.546,-12.573) 76(-5.847,-61.341) 76(-5.847,-12.573) 76(-1.275,-61.341) 76(-1.275,-12.573) 76(3.297,-61.341) 76(3.297,-12.573) 76(7.869,-61.341) 76(7.869,-12.573) 76(12.568,-61.341) 76(12.568,-12.573) 76(17.14,-61.341) 76(17.14,-12.573) 77(-273.182,-58.293) 77(-273.182,-9.525) 77(-268.61,-58.293) 77(-268.61,-9.525) 77(-263.911,-58.293) 77(-263.911,-9.525) 77(-259.339,-58.293) 77(-259.339,-9.525) 77(-254.767,-58.293) 77(-254.767,-9.525) 77(-250.195,-58.293) 77(-250.195,-9.525) 77(-245.496,-58.293) 77(-245.496,-9.525) 77(-240.924,-58.293) 77(-240.924,-9.525) 77(-236.352,-58.293) 77(-236.352,-9.525) 77(-231.78,-58.293) 77(-231.78,-9.525) 77(-227.081,-58.293) 77(-227.081,-9.525) 77(-222.509,-58.293) 77(-222.509,-9.525) 77(-217.937,-58.293) 77(-217.937,-9.525) 77(-213.365,-58.293) 77(-213.365,-9.525) 77(-208.666,-58.293) 77(-208.666,-9.525) 77(-204.094,-58.293) 77(-204.094,-9.525) 77(-199.395,-58.293) 77(-199.395,-9.525) 77(-194.823,-58.293) 77(-194.823,-9.525) 77(-190.124,-58.293) 77(-190.124,-9.525) 77(-185.552,-58.293) 77(-185.552,-9.525) 77(-180.98,-58.293) 77(-180.98,-9.525) 77(-176.408,-58.293) 77(-176.408,-9.525) 77(-171.709,-58.293) 77(-171.709,-9.525) 77(-167.137,-58.293) 77(-167.137,-9.525) 77(-162.565,-58.293) 77(-162.565,-9.525) 77(-157.993,-58.293) 77(-157.993,-9.525) 77(-153.294,-58.293) 77(-153.294,-9.525) 77(-148.722,-58.293) 77(-148.722,-9.525) 77(-144.15,-58.293) 77(-144.15,-9.525) 77(-139.578,-58.293) 77(-139.578,-9.525) 77(-134.879,-58.293) 77(-134.879,-9.525) 77(-130.307,-58.293) 77(-130.307,-9.525) 77(-125.735,-58.293) 77(-125.735,-9.525) 77(-121.163,-58.293) 77(-121.163,-9.525) 77(-116.464,-58.293) 77(-116.464,-9.525) 77(-111.892,-58.293) 77(-111.892,-9.525) 77(-107.32,-58.293) 77(-107.32,-9.525) 77(-102.748,-58.293) 77(-102.748,-9.525) 77(-98.049,-58.293) 77(-98.049,-9.525) 77(-93.477,-58.293) 77(-93.477,-9.525) 77(-88.905,-58.293) 77(-88.905,-9.525) 77(-84.333,-58.293) 77(-84.333,-9.525) 77(-79.634,-58.293) 77(-79.634,-9.525) 77(-75.062,-58.293) 77(-75.062,-9.525) 77(-70.49,-58.293) 77(-70.49,-9.525) 77(-65.918,-58.293) 77(-65.918,-9.525) 77(-61.219,-58.293) 77(-61.219,-9.525) 77(-56.647,-58.293) 77(-56.647,-9.525) 77(-51.948,-58.293) 77(-51.948,-9.525) 77(-47.376,-58.293) 77(-47.376,-9.525) 77(-42.677,-58.293) 77(-42.677,-9.525) 77(-38.105,-58.293) 77(-38.105,-9.525) 77(-33.533,-58.293) 77(-33.533,-9.525) 77(-28.961,-58.293) 77(-28.961,-9.525) 77(-24.262,-58.293) 77(-24.262,-9.525) 77(-19.69,-58.293) 77(-19.69,-9.525) 77(-15.118,-58.293) 77(-15.118,-9.525) 77(-10.546,-58.293) 77(-10.546,-9.525) 77(-5.847,-58.293) 77(-5.847,-9.525) 77(-1.275,-58.293) 77(-1.275,-9.525) 77(3.297,-58.293) 77(3.297,-9.525) 77(7.869,-58.293) 77(7.869,-9.525) 77(12.568,-58.293) 77(12.568,-9.525) 77(17.14,-58.293) 77(17.14,-9.525) 78(-273.182,-55.245) 78(-273.182,-6.477) 78(-268.61,-55.245) 78(-268.61,-6.477) 78(-263.911,-55.245) 78(-263.911,-6.477) 78(-259.339,-55.245) 78(-259.339,-6.477) 78(-254.767,-55.245) 78(-254.767,-6.477) 78(-250.195,-55.245) 78(-250.195,-6.477) 78(-245.496,-55.245) 78(-245.496,-6.477) 78(-240.924,-55.245) 78(-240.924,-6.477) 78(-236.352,-55.245) 78(-236.352,-6.477) 78(-231.78,-55.245) 78(-231.78,-6.477) 78(-227.081,-55.245) 78(-227.081,-6.477) 78(-222.509,-55.245) 78(-222.509,-6.477) 78(-217.937,-55.245) 78(-217.937,-6.477) 78(-213.365,-55.245) 78(-213.365,-6.477) 78(-208.666,-55.245) 78(-208.666,-6.477) 78(-204.094,-55.245) 78(-204.094,-6.477) 78(-199.395,-55.245) 78(-199.395,-6.477) 78(-194.823,-55.245) 78(-194.823,-6.477) 78(-190.124,-55.245) 78(-190.124,-6.477) 78(-185.552,-55.245) 78(-185.552,-6.477) 78(-180.98,-55.245) 78(-180.98,-6.477) 78(-176.408,-55.245) 78(-176.408,-6.477) 78(-171.709,-55.245) 78(-171.709,-6.477) 78(-167.137,-55.245) 78(-167.137,-6.477) 78(-162.565,-55.245) 78(-162.565,-6.477) 78(-157.993,-55.245) 78(-157.993,-6.477) 78(-153.294,-55.245) 78(-153.294,-6.477) 78(-148.722,-55.245) 78(-148.722,-6.477) 78(-144.15,-55.245) 78(-144.15,-6.477) 78(-139.578,-55.245) 78(-139.578,-6.477) 78(-134.879,-55.245) 78(-134.879,-6.477) 78(-130.307,-55.245) 78(-130.307,-6.477) 78(-125.735,-55.245) 78(-125.735,-6.477) 78(-121.163,-55.245) 78(-121.163,-6.477) 78(-116.464,-55.245) 78(-116.464,-6.477) 78(-111.892,-55.245) 78(-111.892,-6.477) 78(-107.32,-55.245) 78(-107.32,-6.477) 78(-102.748,-55.245) 78(-102.748,-6.477) 78(-98.049,-55.245) 78(-98.049,-6.477) 78(-93.477,-55.245) 78(-93.477,-6.477) 78(-88.905,-55.245) 78(-88.905,-6.477) 78(-84.333,-55.245) 78(-84.333,-6.477) 78(-79.634,-55.245) 78(-79.634,-6.477) 78(-75.062,-55.245) 78(-75.062,-6.477) 78(-70.49,-55.245) 78(-70.49,-6.477) 78(-65.918,-55.245) 78(-65.918,-6.477) 78(-61.219,-55.245) 78(-61.219,-6.477) 78(-56.647,-55.245) 78(-56.647,-6.477) 78(-51.948,-55.245) 78(-51.948,-6.477) 78(-47.376,-55.245) 78(-47.376,-6.477) 78(-42.677,-55.245) 78(-42.677,-6.477) 78(-38.105,-55.245) 78(-38.105,-6.477) 78(-33.533,-55.245) 78(-33.533,-6.477) 78(-28.961,-55.245) 78(-28.961,-6.477) 78(-24.262,-55.245) 78(-24.262,-6.477) 78(-19.69,-55.245) 78(-19.69,-6.477) 78(-15.118,-55.245) 78(-15.118,-6.477) 78(-10.546,-55.245) 78(-10.546,-6.477) 78(-5.847,-55.245) 78(-5.847,-6.477) 78(-1.275,-55.245) 78(-1.275,-6.477) 78(3.297,-55.245) 78(3.297,-6.477) 78(7.869,-55.245) 78(7.869,-6.477) 78(12.568,-55.245) 78(12.568,-6.477) 78(17.14,-55.245) 78(17.14,-6.477) 79(-273.182,-52.197) 79(-273.182,-3.429) 79(-268.61,-52.197) 79(-268.61,-3.429) 79(-263.911,-52.197) 79(-263.911,-3.429) 79(-259.339,-52.197) 79(-259.339,-3.429) 79(-254.767,-52.197) 79(-254.767,-3.429) 79(-250.195,-52.197) 79(-250.195,-3.429) 79(-245.496,-52.197) 79(-245.496,-3.429) 79(-240.924,-52.197) 79(-240.924,-3.429) 79(-236.352,-52.197) 79(-236.352,-3.429) 79(-231.78,-52.197) 79(-231.78,-3.429) 79(-227.081,-52.197) 79(-227.081,-3.429) 79(-222.509,-52.197) 79(-222.509,-3.429) 79(-217.937,-52.197) 79(-217.937,-3.429) 79(-213.365,-52.197) 79(-213.365,-3.429) 79(-208.666,-52.197) 79(-208.666,-3.429) 79(-204.094,-52.197) 79(-204.094,-3.429) 79(-199.395,-52.197) 79(-199.395,-3.429) 79(-194.823,-52.197) 79(-194.823,-3.429) 79(-190.124,-52.197) 79(-190.124,-3.429) 79(-185.552,-52.197) 79(-185.552,-3.429) 79(-180.98,-52.197) 79(-180.98,-3.429) 79(-176.408,-52.197) 79(-176.408,-3.429) 79(-171.709,-52.197) 79(-171.709,-3.429) 79(-167.137,-52.197) 79(-167.137,-3.429) 79(-162.565,-52.197) 79(-162.565,-3.429) 79(-157.993,-52.197) 79(-157.993,-3.429) 79(-153.294,-52.197) 79(-153.294,-3.429) 79(-148.722,-52.197) 79(-148.722,-3.429) 79(-144.15,-52.197) 79(-144.15,-3.429) 79(-139.578,-52.197) 79(-139.578,-3.429) 79(-134.879,-52.197) 79(-134.879,-3.429) 79(-130.307,-52.197) 79(-130.307,-3.429) 79(-125.735,-52.197) 79(-125.735,-3.429) 79(-121.163,-52.197) 79(-121.163,-3.429) 79(-116.464,-52.197) 79(-116.464,-3.429) 79(-111.892,-52.197) 79(-111.892,-3.429) 79(-107.32,-52.197) 79(-107.32,-3.429) 79(-102.748,-52.197) 79(-102.748,-3.429) 79(-98.049,-52.197) 79(-98.049,-3.429) 79(-93.477,-52.197) 79(-93.477,-3.429) 79(-88.905,-52.197) 79(-88.905,-3.429) 79(-84.333,-52.197) 79(-84.333,-3.429) 79(-79.634,-52.197) 79(-79.634,-3.429) 79(-75.062,-52.197) 79(-75.062,-3.429) 79(-70.49,-52.197) 79(-70.49,-3.429) 79(-65.918,-52.197) 79(-65.918,-3.429) 79(-61.219,-52.197) 79(-61.219,-3.429) 79(-56.647,-52.197) 79(-56.647,-3.429) 79(-51.948,-52.197) 79(-51.948,-3.429) 79(-47.376,-52.197) 79(-47.376,-3.429) 79(-42.677,-52.197) 79(-42.677,-3.429) 79(-38.105,-52.197) 79(-38.105,-3.429) 79(-33.533,-52.197) 79(-33.533,-3.429) 79(-28.961,-52.197) 79(-28.961,-3.429) 79(-24.262,-52.197) 79(-24.262,-3.429) 79(-19.69,-52.197) 79(-19.69,-3.429) 79(-15.118,-52.197) 79(-15.118,-3.429) 79(-10.546,-52.197) 79(-10.546,-3.429) 79(-5.847,-52.197) 79(-5.847,-3.429) 79(-1.275,-52.197) 79(-1.275,-3.429) 79(3.297,-52.197) 79(3.297,-3.429) 79(7.869,-52.197) 79(7.869,-3.429) 79(12.568,-52.197) 79(12.568,-3.429) 79(17.14,-52.197) 79(17.14,-3.429) 80(-273.182,-49.149) 80(-273.182,-0.381) 80(-268.61,-49.149) 80(-268.61,-0.381) 80(-263.911,-49.149) 80(-263.911,-0.381) 80(-259.339,-49.149) 80(-259.339,-0.381) 80(-254.767,-49.149) 80(-254.767,-0.381) 80(-250.195,-49.149) 80(-250.195,-0.381) 80(-245.496,-49.149) 80(-245.496,-0.381) 80(-240.924,-49.149) 80(-240.924,-0.381) 80(-236.352,-49.149) 80(-236.352,-0.381) 80(-231.78,-49.149) 80(-231.78,-0.381) 80(-227.081,-49.149) 80(-227.081,-0.381) 80(-222.509,-49.149) 80(-222.509,-0.381) 80(-217.937,-49.149) 80(-217.937,-0.381) 80(-213.365,-49.149) 80(-213.365,-0.381) 80(-208.666,-49.149) 80(-208.666,-0.381) 80(-204.094,-49.149) 80(-204.094,-0.381) 80(-199.395,-49.149) 80(-199.395,-0.381) 80(-194.823,-49.149) 80(-194.823,-0.381) 80(-190.124,-49.149) 80(-190.124,-0.381) 80(-185.552,-49.149) 80(-185.552,-0.381) 80(-180.98,-49.149) 80(-180.98,-0.381) 80(-176.408,-49.149) 80(-176.408,-0.381) 80(-171.709,-49.149) 80(-171.709,-0.381) 80(-167.137,-49.149) 80(-167.137,-0.381) 80(-162.565,-49.149) 80(-162.565,-0.381) 80(-157.993,-49.149) 80(-157.993,-0.381) 80(-153.294,-49.149) 80(-153.294,-0.381) 80(-148.722,-49.149) 80(-148.722,-0.381) 80(-144.15,-49.149) 80(-144.15,-0.381) 80(-139.578,-49.149) 80(-139.578,-0.381) 80(-134.879,-49.149) 80(-134.879,-0.381) 80(-130.307,-49.149) 80(-130.307,-0.381) 80(-125.735,-49.149) 80(-125.735,-0.381) 80(-121.163,-49.149) 80(-121.163,-0.381) 80(-116.464,-49.149) 80(-116.464,-0.381) 80(-111.892,-49.149) 80(-111.892,-0.381) 80(-107.32,-49.149) 80(-107.32,-0.381) 80(-102.748,-49.149) 80(-102.748,-0.381) 80(-98.049,-49.149) 80(-98.049,-0.381) 80(-93.477,-49.149) 80(-93.477,-0.381) 80(-88.905,-49.149) 80(-88.905,-0.381) 80(-84.333,-49.149) 80(-84.333,-0.381) 80(-79.634,-49.149) 80(-79.634,-0.381) 80(-75.062,-49.149) 80(-75.062,-0.381) 80(-70.49,-49.149) 80(-70.49,-0.381) 80(-65.918,-49.149) 80(-65.918,-0.381) 80(-61.219,-49.149) 80(-61.219,-0.381) 80(-56.647,-49.149) 80(-56.647,-0.381) 80(-51.948,-49.149) 80(-51.948,-0.381) 80(-47.376,-49.149) 80(-47.376,-0.381) 80(-42.677,-49.149) 80(-42.677,-0.381) 80(-38.105,-49.149) 80(-38.105,-0.381) 80(-33.533,-49.149) 80(-33.533,-0.381) 80(-28.961,-49.149) 80(-28.961,-0.381) 80(-24.262,-49.149) 80(-24.262,-0.381) 80(-19.69,-49.149) 80(-19.69,-0.381) 80(-15.118,-49.149) 80(-15.118,-0.381) 80(-10.546,-49.149) 80(-10.546,-0.381) 80(-5.847,-49.149) 80(-5.847,-0.381) 80(-1.275,-49.149) 80(-1.275,-0.381) 80(3.297,-49.149) 80(3.297,-0.381) 80(7.869,-49.149) 80(7.869,-0.381) 80(12.568,-49.149) 80(12.568,-0.381) 80(17.14,-49.149) 80(17.14,-0.381) 81(-275.082,-46.101) 81(-275.082,-43.053) 81(-275.082,-40.005) 81(-275.082,-36.957) 81(-275.082,-33.909) 81(-275.082,-30.861) 81(-275.082,-27.813) 81(-275.082,-24.765) 81(-275.082,-21.717) 81(-275.082,-18.669) 81(-275.082,-15.621) 81(-275.082,-12.573) 81(-275.082,-9.525) 81(-275.082,-6.477) 81(-275.082,-3.429) 81(-275.082,-0.381) 82(-270.51,-46.101) 82(-270.51,-43.053) 82(-270.51,-40.005) 82(-270.51,-36.957) 82(-270.51,-33.909) 82(-270.51,-30.861) 82(-270.51,-27.813) 82(-270.51,-24.765) 82(-270.51,-21.717) 82(-270.51,-18.669) 82(-270.51,-15.621) 82(-270.51,-12.573) 82(-270.51,-9.525) 82(-270.51,-6.477) 82(-270.51,-3.429) 82(-270.51,-0.381) 83(-265.811,-46.101) 83(-265.811,-43.053) 83(-265.811,-40.005) 83(-265.811,-36.957) 83(-265.811,-33.909) 83(-265.811,-30.861) 83(-265.811,-27.813) 83(-265.811,-24.765) 83(-265.811,-21.717) 83(-265.811,-18.669) 83(-265.811,-15.621) 83(-265.811,-12.573) 83(-265.811,-9.525) 83(-265.811,-6.477) 83(-265.811,-3.429) 83(-265.811,-0.381) 84(-261.239,-46.101) 84(-261.239,-43.053) 84(-261.239,-40.005) 84(-261.239,-36.957) 84(-261.239,-33.909) 84(-261.239,-30.861) 84(-261.239,-27.813) 84(-261.239,-24.765) 84(-261.239,-21.717) 84(-261.239,-18.669) 84(-261.239,-15.621) 84(-261.239,-12.573) 84(-261.239,-9.525) 84(-261.239,-6.477) 84(-261.239,-3.429) 84(-261.239,-0.381) 85(-256.667,-46.101) 85(-256.667,-43.053) 85(-256.667,-40.005) 85(-256.667,-36.957) 85(-256.667,-33.909) 85(-256.667,-30.861) 85(-256.667,-27.813) 85(-256.667,-24.765) 85(-256.667,-21.717) 85(-256.667,-18.669) 85(-256.667,-15.621) 85(-256.667,-12.573) 85(-256.667,-9.525) 85(-256.667,-6.477) 85(-256.667,-3.429) 85(-256.667,-0.381) 86(-252.095,-46.101) 86(-252.095,-43.053) 86(-252.095,-40.005) 86(-252.095,-36.957) 86(-252.095,-33.909) 86(-252.095,-30.861) 86(-252.095,-27.813) 86(-252.095,-24.765) 86(-252.095,-21.717) 86(-252.095,-18.669) 86(-252.095,-15.621) 86(-252.095,-12.573) 86(-252.095,-9.525) 86(-252.095,-6.477) 86(-252.095,-3.429) 86(-252.095,-0.381) 87(-247.396,-46.101) 87(-247.396,-43.053) 87(-247.396,-40.005) 87(-247.396,-36.957) 87(-247.396,-33.909) 87(-247.396,-30.861) 87(-247.396,-27.813) 87(-247.396,-24.765) 87(-247.396,-21.717) 87(-247.396,-18.669) 87(-247.396,-15.621) 87(-247.396,-12.573) 87(-247.396,-9.525) 87(-247.396,-6.477) 87(-247.396,-3.429) 87(-247.396,-0.381) 88(-242.824,-46.101) 88(-242.824,-43.053) 88(-242.824,-40.005) 88(-242.824,-36.957) 88(-242.824,-33.909) 88(-242.824,-30.861) 88(-242.824,-27.813) 88(-242.824,-24.765) 88(-242.824,-21.717) 88(-242.824,-18.669) 88(-242.824,-15.621) 88(-242.824,-12.573) 88(-242.824,-9.525) 88(-242.824,-6.477) 88(-242.824,-3.429) 88(-242.824,-0.381) 89(-238.252,-46.101) 89(-238.252,-43.053) 89(-238.252,-40.005) 89(-238.252,-36.957) 89(-238.252,-33.909) 89(-238.252,-30.861) 89(-238.252,-27.813) 89(-238.252,-24.765) 89(-238.252,-21.717) 89(-238.252,-18.669) 89(-238.252,-15.621) 89(-238.252,-12.573) 89(-238.252,-9.525) 89(-238.252,-6.477) 89(-238.252,-3.429) 89(-238.252,-0.381) 90(-233.68,-46.101) 90(-233.68,-43.053) 90(-233.68,-40.005) 90(-233.68,-36.957) 90(-233.68,-33.909) 90(-233.68,-30.861) 90(-233.68,-27.813) 90(-233.68,-24.765) 90(-233.68,-21.717) 90(-233.68,-18.669) 90(-233.68,-15.621) 90(-233.68,-12.573) 90(-233.68,-9.525) 90(-233.68,-6.477) 90(-233.68,-3.429) 90(-233.68,-0.381) 91(-228.981,-46.101) 91(-228.981,-43.053) 91(-228.981,-40.005) 91(-228.981,-36.957) 91(-228.981,-33.909) 91(-228.981,-30.861) 91(-228.981,-27.813) 91(-228.981,-24.765) 91(-228.981,-21.717) 91(-228.981,-18.669) 91(-228.981,-15.621) 91(-228.981,-12.573) 91(-228.981,-9.525) 91(-228.981,-6.477) 91(-228.981,-3.429) 91(-228.981,-0.381) 92(-224.409,-46.101) 92(-224.409,-43.053) 92(-224.409,-40.005) 92(-224.409,-36.957) 92(-224.409,-33.909) 92(-224.409,-30.861) 92(-224.409,-27.813) 92(-224.409,-24.765) 92(-224.409,-21.717) 92(-224.409,-18.669) 92(-224.409,-15.621) 92(-224.409,-12.573) 92(-224.409,-9.525) 92(-224.409,-6.477) 92(-224.409,-3.429) 92(-224.409,-0.381) 93(-219.837,-46.101) 93(-219.837,-43.053) 93(-219.837,-40.005) 93(-219.837,-36.957) 93(-219.837,-33.909) 93(-219.837,-30.861) 93(-219.837,-27.813) 93(-219.837,-24.765) 93(-219.837,-21.717) 93(-219.837,-18.669) 93(-219.837,-15.621) 93(-219.837,-12.573) 93(-219.837,-9.525) 93(-219.837,-6.477) 93(-219.837,-3.429) 93(-219.837,-0.381) 94(-215.265,-46.101) 94(-215.265,-43.053) 94(-215.265,-40.005) 94(-215.265,-36.957) 94(-215.265,-33.909) 94(-215.265,-30.861) 94(-215.265,-27.813) 94(-215.265,-24.765) 94(-215.265,-21.717) 94(-215.265,-18.669) 94(-215.265,-15.621) 94(-215.265,-12.573) 94(-215.265,-9.525) 94(-215.265,-6.477) 94(-215.265,-3.429) 94(-215.265,-0.381) 95(-210.566,-46.101) 95(-210.566,-43.053) 95(-210.566,-40.005) 95(-210.566,-36.957) 95(-210.566,-33.909) 95(-210.566,-30.861) 95(-210.566,-27.813) 95(-210.566,-24.765) 95(-210.566,-21.717) 95(-210.566,-18.669) 95(-210.566,-15.621) 95(-210.566,-12.573) 95(-210.566,-9.525) 95(-210.566,-6.477) 95(-210.566,-3.429) 95(-210.566,-0.381) 96(-205.994,-46.101) 96(-205.994,-43.053) 96(-205.994,-40.005) 96(-205.994,-36.957) 96(-205.994,-33.909) 96(-205.994,-30.861) 96(-205.994,-27.813) 96(-205.994,-24.765) 96(-205.994,-21.717) 96(-205.994,-18.669) 96(-205.994,-15.621) 96(-205.994,-12.573) 96(-205.994,-9.525) 96(-205.994,-6.477) 96(-205.994,-3.429) 96(-205.994,-0.381) 97(-201.295,-46.101) 97(-201.295,-43.053) 97(-201.295,-40.005) 97(-201.295,-36.957) 97(-201.295,-33.909) 97(-201.295,-30.861) 97(-201.295,-27.813) 97(-201.295,-24.765) 97(-201.295,-21.717) 97(-201.295,-18.669) 97(-201.295,-15.621) 97(-201.295,-12.573) 97(-201.295,-9.525) 97(-201.295,-6.477) 97(-201.295,-3.429) 97(-201.295,-0.381) 98(-196.723,-46.101) 98(-196.723,-43.053) 98(-196.723,-40.005) 98(-196.723,-36.957) 98(-196.723,-33.909) 98(-196.723,-30.861) 98(-196.723,-27.813) 98(-196.723,-24.765) 98(-196.723,-21.717) 98(-196.723,-18.669) 98(-196.723,-15.621) 98(-196.723,-12.573) 98(-196.723,-9.525) 98(-196.723,-6.477) 98(-196.723,-3.429) 98(-196.723,-0.381) 99(-192.024,-46.101) 99(-192.024,-43.053) 99(-192.024,-40.005) 99(-192.024,-36.957) 99(-192.024,-33.909) 99(-192.024,-30.861) 99(-192.024,-27.813) 99(-192.024,-24.765) 99(-192.024,-21.717) 99(-192.024,-18.669) 99(-192.024,-15.621) 99(-192.024,-12.573) 99(-192.024,-9.525) 99(-192.024,-6.477) 99(-192.024,-3.429) 99(-192.024,-0.381) 100(-187.452,-46.101) 100(-187.452,-43.053) 100(-187.452,-40.005) 100(-187.452,-36.957) 100(-187.452,-33.909) 100(-187.452,-30.861) 100(-187.452,-27.813) 100(-187.452,-24.765) 100(-187.452,-21.717) 100(-187.452,-18.669) 100(-187.452,-15.621) 100(-187.452,-12.573) 100(-187.452,-9.525) 100(-187.452,-6.477) 100(-187.452,-3.429) 100(-187.452,-0.381) 101(-182.88,-46.101) 101(-182.88,-43.053) 101(-182.88,-40.005) 101(-182.88,-36.957) 101(-182.88,-33.909) 101(-182.88,-30.861) 101(-182.88,-27.813) 101(-182.88,-24.765) 101(-182.88,-21.717) 101(-182.88,-18.669) 101(-182.88,-15.621) 101(-182.88,-12.573) 101(-182.88,-9.525) 101(-182.88,-6.477) 101(-182.88,-3.429) 101(-182.88,-0.381) 102(-178.308,-46.101) 102(-178.308,-43.053) 102(-178.308,-40.005) 102(-178.308,-36.957) 102(-178.308,-33.909) 102(-178.308,-30.861) 102(-178.308,-27.813) 102(-178.308,-24.765) 102(-178.308,-21.717) 102(-178.308,-18.669) 102(-178.308,-15.621) 102(-178.308,-12.573) 102(-178.308,-9.525) 102(-178.308,-6.477) 102(-178.308,-3.429) 102(-178.308,-0.381) 103(-173.609,-46.101) 103(-173.609,-43.053) 103(-173.609,-40.005) 103(-173.609,-36.957) 103(-173.609,-33.909) 103(-173.609,-30.861) 103(-173.609,-27.813) 103(-173.609,-24.765) 103(-173.609,-21.717) 103(-173.609,-18.669) 103(-173.609,-15.621) 103(-173.609,-12.573) 103(-173.609,-9.525) 103(-173.609,-6.477) 103(-173.609,-3.429) 103(-173.609,-0.381) 104(-169.037,-46.101) 104(-169.037,-43.053) 104(-169.037,-40.005) 104(-169.037,-36.957) 104(-169.037,-33.909) 104(-169.037,-30.861) 104(-169.037,-27.813) 104(-169.037,-24.765) 104(-169.037,-21.717) 104(-169.037,-18.669) 104(-169.037,-15.621) 104(-169.037,-12.573) 104(-169.037,-9.525) 104(-169.037,-6.477) 104(-169.037,-3.429) 104(-169.037,-0.381) 105(-164.465,-46.101) 105(-164.465,-43.053) 105(-164.465,-40.005) 105(-164.465,-36.957) 105(-164.465,-33.909) 105(-164.465,-30.861) 105(-164.465,-27.813) 105(-164.465,-24.765) 105(-164.465,-21.717) 105(-164.465,-18.669) 105(-164.465,-15.621) 105(-164.465,-12.573) 105(-164.465,-9.525) 105(-164.465,-6.477) 105(-164.465,-3.429) 105(-164.465,-0.381) 106(-159.893,-46.101) 106(-159.893,-43.053) 106(-159.893,-40.005) 106(-159.893,-36.957) 106(-159.893,-33.909) 106(-159.893,-30.861) 106(-159.893,-27.813) 106(-159.893,-24.765) 106(-159.893,-21.717) 106(-159.893,-18.669) 106(-159.893,-15.621) 106(-159.893,-12.573) 106(-159.893,-9.525) 106(-159.893,-6.477) 106(-159.893,-3.429) 106(-159.893,-0.381) 107(-155.194,-46.101) 107(-155.194,-43.053) 107(-155.194,-40.005) 107(-155.194,-36.957) 107(-155.194,-33.909) 107(-155.194,-30.861) 107(-155.194,-27.813) 107(-155.194,-24.765) 107(-155.194,-21.717) 107(-155.194,-18.669) 107(-155.194,-15.621) 107(-155.194,-12.573) 107(-155.194,-9.525) 107(-155.194,-6.477) 107(-155.194,-3.429) 107(-155.194,-0.381) 108(-150.622,-46.101) 108(-150.622,-43.053) 108(-150.622,-40.005) 108(-150.622,-36.957) 108(-150.622,-33.909) 108(-150.622,-30.861) 108(-150.622,-27.813) 108(-150.622,-24.765) 108(-150.622,-21.717) 108(-150.622,-18.669) 108(-150.622,-15.621) 108(-150.622,-12.573) 108(-150.622,-9.525) 108(-150.622,-6.477) 108(-150.622,-3.429) 108(-150.622,-0.381) 109(-146.05,-46.101) 109(-146.05,-43.053) 109(-146.05,-40.005) 109(-146.05,-36.957) 109(-146.05,-33.909) 109(-146.05,-30.861) 109(-146.05,-27.813) 109(-146.05,-24.765) 109(-146.05,-21.717) 109(-146.05,-18.669) 109(-146.05,-15.621) 109(-146.05,-12.573) 109(-146.05,-9.525) 109(-146.05,-6.477) 109(-146.05,-3.429) 109(-146.05,-0.381) 110(-141.478,-46.101) 110(-141.478,-43.053) 110(-141.478,-40.005) 110(-141.478,-36.957) 110(-141.478,-33.909) 110(-141.478,-30.861) 110(-141.478,-27.813) 110(-141.478,-24.765) 110(-141.478,-21.717) 110(-141.478,-18.669) 110(-141.478,-15.621) 110(-141.478,-12.573) 110(-141.478,-9.525) 110(-141.478,-6.477) 110(-141.478,-3.429) 110(-141.478,-0.381) 111(-136.779,-46.101) 111(-136.779,-43.053) 111(-136.779,-40.005) 111(-136.779,-36.957) 111(-136.779,-33.909) 111(-136.779,-30.861) 111(-136.779,-27.813) 111(-136.779,-24.765) 111(-136.779,-21.717) 111(-136.779,-18.669) 111(-136.779,-15.621) 111(-136.779,-12.573) 111(-136.779,-9.525) 111(-136.779,-6.477) 111(-136.779,-3.429) 111(-136.779,-0.381) 112(-132.207,-46.101) 112(-132.207,-43.053) 112(-132.207,-40.005) 112(-132.207,-36.957) 112(-132.207,-33.909) 112(-132.207,-30.861) 112(-132.207,-27.813) 112(-132.207,-24.765) 112(-132.207,-21.717) 112(-132.207,-18.669) 112(-132.207,-15.621) 112(-132.207,-12.573) 112(-132.207,-9.525) 112(-132.207,-6.477) 112(-132.207,-3.429) 112(-132.207,-0.381) 113(-127.635,-46.101) 113(-127.635,-43.053) 113(-127.635,-40.005) 113(-127.635,-36.957) 113(-127.635,-33.909) 113(-127.635,-30.861) 113(-127.635,-27.813) 113(-127.635,-24.765) 113(-127.635,-21.717) 113(-127.635,-18.669) 113(-127.635,-15.621) 113(-127.635,-12.573) 113(-127.635,-9.525) 113(-127.635,-6.477) 113(-127.635,-3.429) 113(-127.635,-0.381) 114(-123.063,-46.101) 114(-123.063,-43.053) 114(-123.063,-40.005) 114(-123.063,-36.957) 114(-123.063,-33.909) 114(-123.063,-30.861) 114(-123.063,-27.813) 114(-123.063,-24.765) 114(-123.063,-21.717) 114(-123.063,-18.669) 114(-123.063,-15.621) 114(-123.063,-12.573) 114(-123.063,-9.525) 114(-123.063,-6.477) 114(-123.063,-3.429) 114(-123.063,-0.381) 115(-118.364,-46.101) 115(-118.364,-43.053) 115(-118.364,-40.005) 115(-118.364,-36.957) 115(-118.364,-33.909) 115(-118.364,-30.861) 115(-118.364,-27.813) 115(-118.364,-24.765) 115(-118.364,-21.717) 115(-118.364,-18.669) 115(-118.364,-15.621) 115(-118.364,-12.573) 115(-118.364,-9.525) 115(-118.364,-6.477) 115(-118.364,-3.429) 115(-118.364,-0.381) 116(-113.792,-46.101) 116(-113.792,-43.053) 116(-113.792,-40.005) 116(-113.792,-36.957) 116(-113.792,-33.909) 116(-113.792,-30.861) 116(-113.792,-27.813) 116(-113.792,-24.765) 116(-113.792,-21.717) 116(-113.792,-18.669) 116(-113.792,-15.621) 116(-113.792,-12.573) 116(-113.792,-9.525) 116(-113.792,-6.477) 116(-113.792,-3.429) 116(-113.792,-0.381) 117(-109.22,-46.101) 117(-109.22,-43.053) 117(-109.22,-40.005) 117(-109.22,-36.957) 117(-109.22,-33.909) 117(-109.22,-30.861) 117(-109.22,-27.813) 117(-109.22,-24.765) 117(-109.22,-21.717) 117(-109.22,-18.669) 117(-109.22,-15.621) 117(-109.22,-12.573) 117(-109.22,-9.525) 117(-109.22,-6.477) 117(-109.22,-3.429) 117(-109.22,-0.381) 118(-104.648,-46.101) 118(-104.648,-43.053) 118(-104.648,-40.005) 118(-104.648,-36.957) 118(-104.648,-33.909) 118(-104.648,-30.861) 118(-104.648,-27.813) 118(-104.648,-24.765) 118(-104.648,-21.717) 118(-104.648,-18.669) 118(-104.648,-15.621) 118(-104.648,-12.573) 118(-104.648,-9.525) 118(-104.648,-6.477) 118(-104.648,-3.429) 118(-104.648,-0.381) 119(-99.949,-46.101) 119(-99.949,-43.053) 119(-99.949,-40.005) 119(-99.949,-36.957) 119(-99.949,-33.909) 119(-99.949,-30.861) 119(-99.949,-27.813) 119(-99.949,-24.765) 119(-99.949,-21.717) 119(-99.949,-18.669) 119(-99.949,-15.621) 119(-99.949,-12.573) 119(-99.949,-9.525) 119(-99.949,-6.477) 119(-99.949,-3.429) 119(-99.949,-0.381) 120(-95.377,-46.101) 120(-95.377,-43.053) 120(-95.377,-40.005) 120(-95.377,-36.957) 120(-95.377,-33.909) 120(-95.377,-30.861) 120(-95.377,-27.813) 120(-95.377,-24.765) 120(-95.377,-21.717) 120(-95.377,-18.669) 120(-95.377,-15.621) 120(-95.377,-12.573) 120(-95.377,-9.525) 120(-95.377,-6.477) 120(-95.377,-3.429) 120(-95.377,-0.381) 121(-90.805,-46.101) 121(-90.805,-43.053) 121(-90.805,-40.005) 121(-90.805,-36.957) 121(-90.805,-33.909) 121(-90.805,-30.861) 121(-90.805,-27.813) 121(-90.805,-24.765) 121(-90.805,-21.717) 121(-90.805,-18.669) 121(-90.805,-15.621) 121(-90.805,-12.573) 121(-90.805,-9.525) 121(-90.805,-6.477) 121(-90.805,-3.429) 121(-90.805,-0.381) 122(-86.233,-46.101) 122(-86.233,-43.053) 122(-86.233,-40.005) 122(-86.233,-36.957) 122(-86.233,-33.909) 122(-86.233,-30.861) 122(-86.233,-27.813) 122(-86.233,-24.765) 122(-86.233,-21.717) 122(-86.233,-18.669) 122(-86.233,-15.621) 122(-86.233,-12.573) 122(-86.233,-9.525) 122(-86.233,-6.477) 122(-86.233,-3.429) 122(-86.233,-0.381) 123(-81.534,-46.101) 123(-81.534,-43.053) 123(-81.534,-40.005) 123(-81.534,-36.957) 123(-81.534,-33.909) 123(-81.534,-30.861) 123(-81.534,-27.813) 123(-81.534,-24.765) 123(-81.534,-21.717) 123(-81.534,-18.669) 123(-81.534,-15.621) 123(-81.534,-12.573) 123(-81.534,-9.525) 123(-81.534,-6.477) 123(-81.534,-3.429) 123(-81.534,-0.381) 124(-76.962,-46.101) 124(-76.962,-43.053) 124(-76.962,-40.005) 124(-76.962,-36.957) 124(-76.962,-33.909) 124(-76.962,-30.861) 124(-76.962,-27.813) 124(-76.962,-24.765) 124(-76.962,-21.717) 124(-76.962,-18.669) 124(-76.962,-15.621) 124(-76.962,-12.573) 124(-76.962,-9.525) 124(-76.962,-6.477) 124(-76.962,-3.429) 124(-76.962,-0.381) 125(-72.39,-46.101) 125(-72.39,-43.053) 125(-72.39,-40.005) 125(-72.39,-36.957) 125(-72.39,-33.909) 125(-72.39,-30.861) 125(-72.39,-27.813) 125(-72.39,-24.765) 125(-72.39,-21.717) 125(-72.39,-18.669) 125(-72.39,-15.621) 125(-72.39,-12.573) 125(-72.39,-9.525) 125(-72.39,-6.477) 125(-72.39,-3.429) 125(-72.39,-0.381) 126(-67.818,-46.101) 126(-67.818,-43.053) 126(-67.818,-40.005) 126(-67.818,-36.957) 126(-67.818,-33.909) 126(-67.818,-30.861) 126(-67.818,-27.813) 126(-67.818,-24.765) 126(-67.818,-21.717) 126(-67.818,-18.669) 126(-67.818,-15.621) 126(-67.818,-12.573) 126(-67.818,-9.525) 126(-67.818,-6.477) 126(-67.818,-3.429) 126(-67.818,-0.381) 127(-63.119,-46.101) 127(-63.119,-43.053) 127(-63.119,-40.005) 127(-63.119,-36.957) 127(-63.119,-33.909) 127(-63.119,-30.861) 127(-63.119,-27.813) 127(-63.119,-24.765) 127(-63.119,-21.717) 127(-63.119,-18.669) 127(-63.119,-15.621) 127(-63.119,-12.573) 127(-63.119,-9.525) 127(-63.119,-6.477) 127(-63.119,-3.429) 127(-63.119,-0.381) 128(-58.547,-46.101) 128(-58.547,-43.053) 128(-58.547,-40.005) 128(-58.547,-36.957) 128(-58.547,-33.909) 128(-58.547,-30.861) 128(-58.547,-27.813) 128(-58.547,-24.765) 128(-58.547,-21.717) 128(-58.547,-18.669) 128(-58.547,-15.621) 128(-58.547,-12.573) 128(-58.547,-9.525) 128(-58.547,-6.477) 128(-58.547,-3.429) 128(-58.547,-0.381) 129(-53.848,-46.101) 129(-53.848,-43.053) 129(-53.848,-40.005) 129(-53.848,-36.957) 129(-53.848,-33.909) 129(-53.848,-30.861) 129(-53.848,-27.813) 129(-53.848,-24.765) 129(-53.848,-21.717) 129(-53.848,-18.669) 129(-53.848,-15.621) 129(-53.848,-12.573) 129(-53.848,-9.525) 129(-53.848,-6.477) 129(-53.848,-3.429) 129(-53.848,-0.381) 130(-49.276,-46.101) 130(-49.276,-43.053) 130(-49.276,-40.005) 130(-49.276,-36.957) 130(-49.276,-33.909) 130(-49.276,-30.861) 130(-49.276,-27.813) 130(-49.276,-24.765) 130(-49.276,-21.717) 130(-49.276,-18.669) 130(-49.276,-15.621) 130(-49.276,-12.573) 130(-49.276,-9.525) 130(-49.276,-6.477) 130(-49.276,-3.429) 130(-49.276,-0.381) 131(-44.577,-46.101) 131(-44.577,-43.053) 131(-44.577,-40.005) 131(-44.577,-36.957) 131(-44.577,-33.909) 131(-44.577,-30.861) 131(-44.577,-27.813) 131(-44.577,-24.765) 131(-44.577,-21.717) 131(-44.577,-18.669) 131(-44.577,-15.621) 131(-44.577,-12.573) 131(-44.577,-9.525) 131(-44.577,-6.477) 131(-44.577,-3.429) 131(-44.577,-0.381) 132(-40.005,-46.101) 132(-40.005,-43.053) 132(-40.005,-40.005) 132(-40.005,-36.957) 132(-40.005,-33.909) 132(-40.005,-30.861) 132(-40.005,-27.813) 132(-40.005,-24.765) 132(-40.005,-21.717) 132(-40.005,-18.669) 132(-40.005,-15.621) 132(-40.005,-12.573) 132(-40.005,-9.525) 132(-40.005,-6.477) 132(-40.005,-3.429) 132(-40.005,-0.381) 133(-35.433,-46.101) 133(-35.433,-43.053) 133(-35.433,-40.005) 133(-35.433,-36.957) 133(-35.433,-33.909) 133(-35.433,-30.861) 133(-35.433,-27.813) 133(-35.433,-24.765) 133(-35.433,-21.717) 133(-35.433,-18.669) 133(-35.433,-15.621) 133(-35.433,-12.573) 133(-35.433,-9.525) 133(-35.433,-6.477) 133(-35.433,-3.429) 133(-35.433,-0.381) 134(-30.861,-46.101) 134(-30.861,-43.053) 134(-30.861,-40.005) 134(-30.861,-36.957) 134(-30.861,-33.909) 134(-30.861,-30.861) 134(-30.861,-27.813) 134(-30.861,-24.765) 134(-30.861,-21.717) 134(-30.861,-18.669) 134(-30.861,-15.621) 134(-30.861,-12.573) 134(-30.861,-9.525) 134(-30.861,-6.477) 134(-30.861,-3.429) 134(-30.861,-0.381) 135(-26.162,-46.101) 135(-26.162,-43.053) 135(-26.162,-40.005) 135(-26.162,-36.957) 135(-26.162,-33.909) 135(-26.162,-30.861) 135(-26.162,-27.813) 135(-26.162,-24.765) 135(-26.162,-21.717) 135(-26.162,-18.669) 135(-26.162,-15.621) 135(-26.162,-12.573) 135(-26.162,-9.525) 135(-26.162,-6.477) 135(-26.162,-3.429) 135(-26.162,-0.381) 136(-21.59,-46.101) 136(-21.59,-43.053) 136(-21.59,-40.005) 136(-21.59,-36.957) 136(-21.59,-33.909) 136(-21.59,-30.861) 136(-21.59,-27.813) 136(-21.59,-24.765) 136(-21.59,-21.717) 136(-21.59,-18.669) 136(-21.59,-15.621) 136(-21.59,-12.573) 136(-21.59,-9.525) 136(-21.59,-6.477) 136(-21.59,-3.429) 136(-21.59,-0.381) 137(-17.018,-46.101) 137(-17.018,-43.053) 137(-17.018,-40.005) 137(-17.018,-36.957) 137(-17.018,-33.909) 137(-17.018,-30.861) 137(-17.018,-27.813) 137(-17.018,-24.765) 137(-17.018,-21.717) 137(-17.018,-18.669) 137(-17.018,-15.621) 137(-17.018,-12.573) 137(-17.018,-9.525) 137(-17.018,-6.477) 137(-17.018,-3.429) 137(-17.018,-0.381) 138(-12.446,-46.101) 138(-12.446,-43.053) 138(-12.446,-40.005) 138(-12.446,-36.957) 138(-12.446,-33.909) 138(-12.446,-30.861) 138(-12.446,-27.813) 138(-12.446,-24.765) 138(-12.446,-21.717) 138(-12.446,-18.669) 138(-12.446,-15.621) 138(-12.446,-12.573) 138(-12.446,-9.525) 138(-12.446,-6.477) 138(-12.446,-3.429) 138(-12.446,-0.381) 139(-7.747,-46.101) 139(-7.747,-43.053) 139(-7.747,-40.005) 139(-7.747,-36.957) 139(-7.747,-33.909) 139(-7.747,-30.861) 139(-7.747,-27.813) 139(-7.747,-24.765) 139(-7.747,-21.717) 139(-7.747,-18.669) 139(-7.747,-15.621) 139(-7.747,-12.573) 139(-7.747,-9.525) 139(-7.747,-6.477) 139(-7.747,-3.429) 139(-7.747,-0.381) 140(-3.175,-46.101) 140(-3.175,-43.053) 140(-3.175,-40.005) 140(-3.175,-36.957) 140(-3.175,-33.909) 140(-3.175,-30.861) 140(-3.175,-27.813) 140(-3.175,-24.765) 140(-3.175,-21.717) 140(-3.175,-18.669) 140(-3.175,-15.621) 140(-3.175,-12.573) 140(-3.175,-9.525) 140(-3.175,-6.477) 140(-3.175,-3.429) 140(-3.175,-0.381) 141(1.397,-46.101) 141(1.397,-43.053) 141(1.397,-40.005) 141(1.397,-36.957) 141(1.397,-33.909) 141(1.397,-30.861) 141(1.397,-27.813) 141(1.397,-24.765) 141(1.397,-21.717) 141(1.397,-18.669) 141(1.397,-15.621) 141(1.397,-12.573) 141(1.397,-9.525) 141(1.397,-6.477) 141(1.397,-3.429) 141(1.397,-0.381) 142(5.969,-46.101) 142(5.969,-43.053) 142(5.969,-40.005) 142(5.969,-36.957) 142(5.969,-33.909) 142(5.969,-30.861) 142(5.969,-27.813) 142(5.969,-24.765) 142(5.969,-21.717) 142(5.969,-18.669) 142(5.969,-15.621) 142(5.969,-12.573) 142(5.969,-9.525) 142(5.969,-6.477) 142(5.969,-3.429) 142(5.969,-0.381) 143(10.668,-46.101) 143(10.668,-43.053) 143(10.668,-40.005) 143(10.668,-36.957) 143(10.668,-33.909) 143(10.668,-30.861) 143(10.668,-27.813) 143(10.668,-24.765) 143(10.668,-21.717) 143(10.668,-18.669) 143(10.668,-15.621) 143(10.668,-12.573) 143(10.668,-9.525) 143(10.668,-6.477) 143(10.668,-3.429) 143(10.668,-0.381) 144(15.24,-46.101) 144(15.24,-43.053) 144(15.24,-40.005) 144(15.24,-36.957) 144(15.24,-33.909) 144(15.24,-30.861) 144(15.24,-27.813) 144(15.24,-24.765) 144(15.24,-21.717) 144(15.24,-18.669) 144(15.24,-15.621) 144(15.24,-12.573) 144(15.24,-9.525) 144(15.24,-6.477) 144(15.24,-3.429) 144(15.24,-0.381)
Top Overlay:
  drawing of 8192 lines, arcs and shapes, not listed